# Altium schematic symbol library SCH-27516_C3_16_2_Library.SchLib: 105 symbols (part 1 of 2)
Pins are listed as number, name and electrical type; pins without a type are passive.

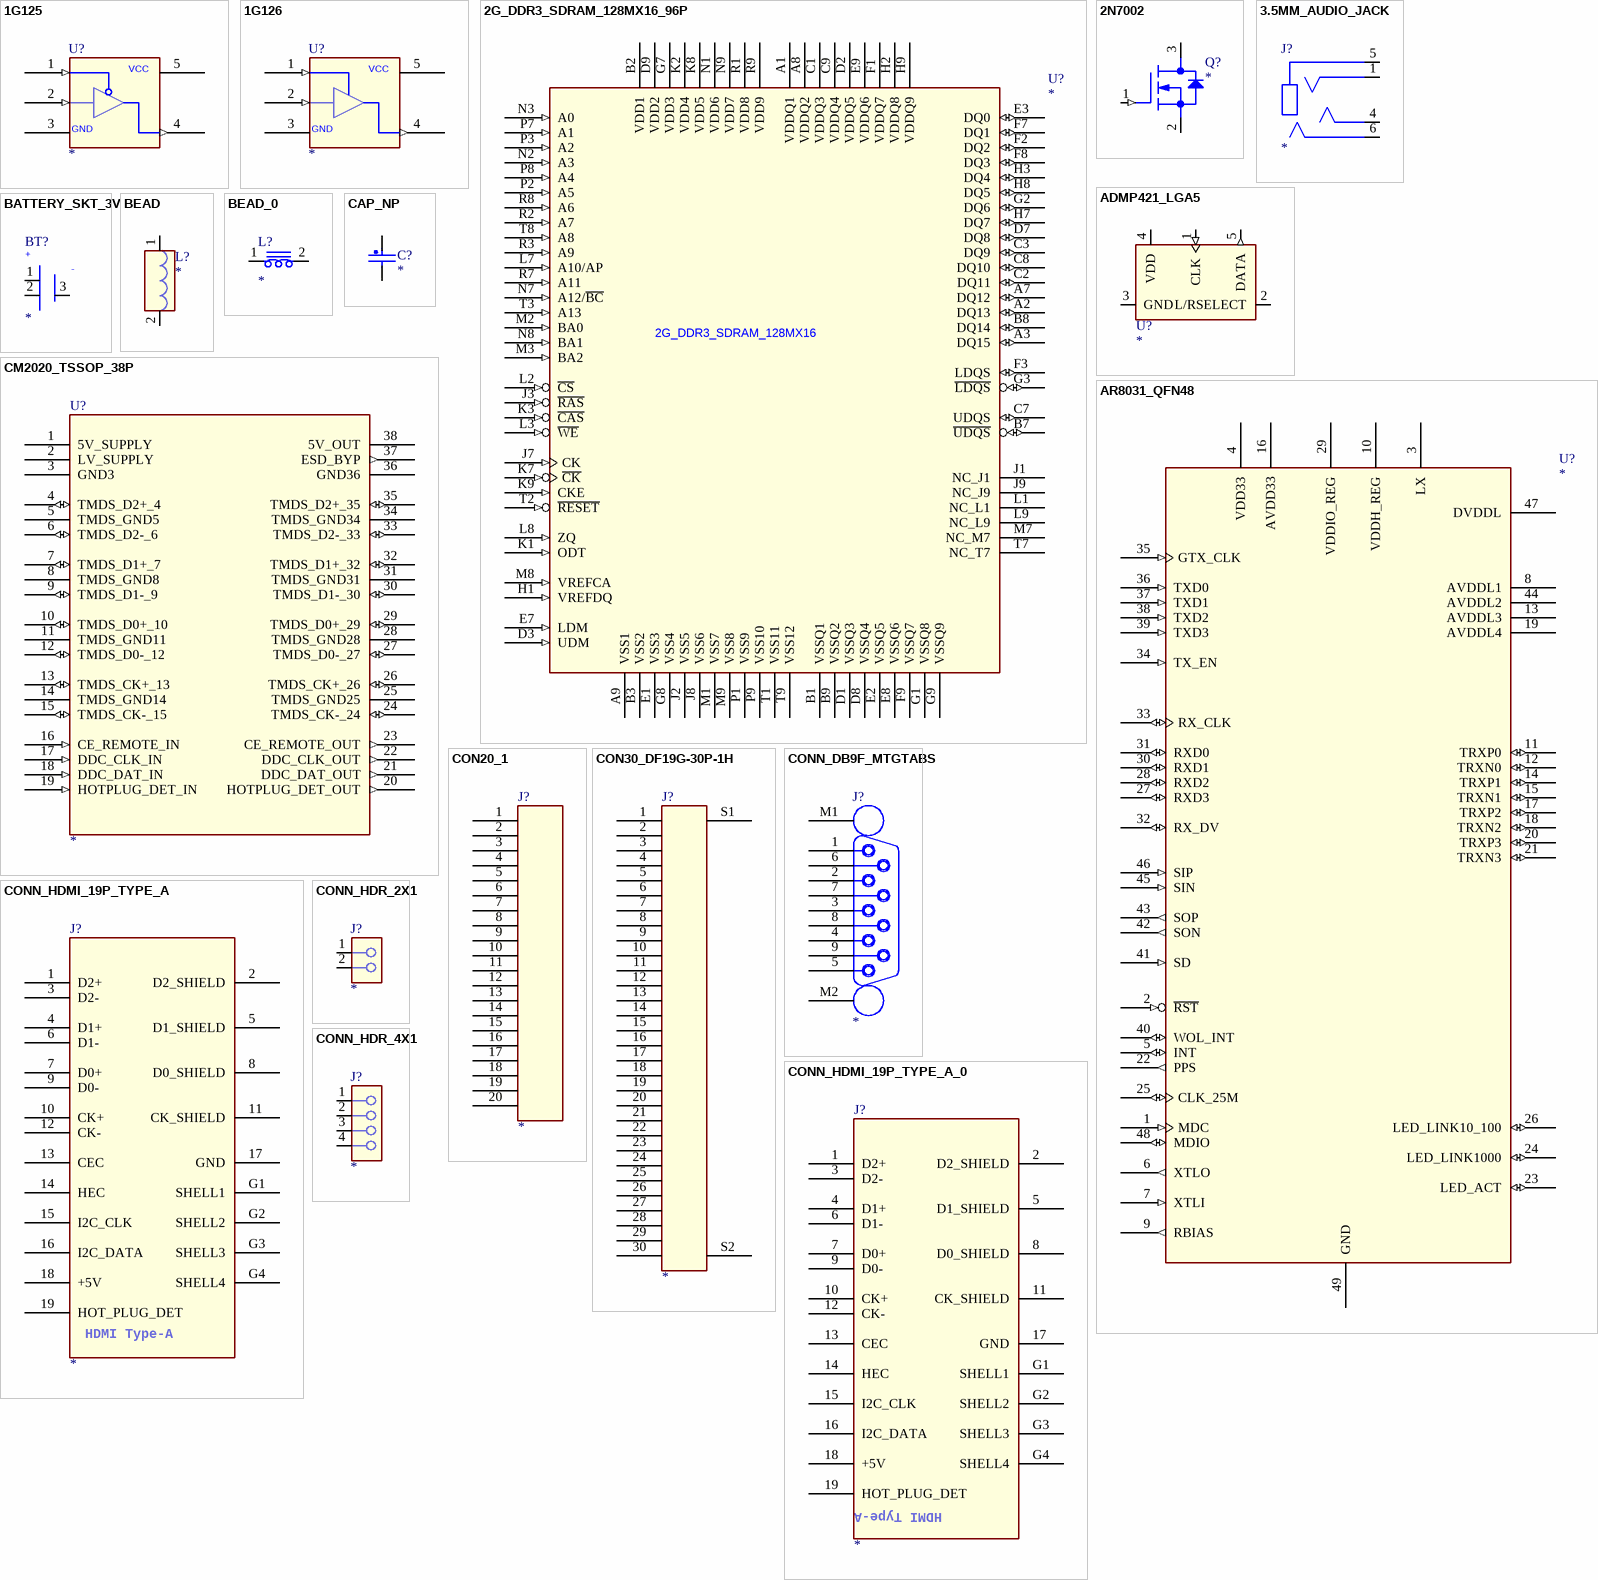
[diagram p0: symbols 1G125 to CONN_HDR_4X1]

## 1G125
designator U?
CLASS: IC
pins: 1 ~{OE} (in), 2 A (in), 3 GND (power), 4 Y (out), 5 VCC (power)

## 1G126
designator U?
CLASS: IC
pins: 1 OE (in), 2 A (in), 3 GND (power), 4 Y (out), 5 VCC (power)

## 2G_DDR3_SDRAM_128MX16_96P
designator U?
CLASS: IC
footprint BGA15X9-96_FS
pins: A1 VDDQ1 (power), A2 DQ13 (io), A3 DQ15 (io), A7 DQ12 (io), A8 VDDQ2 (power), A9 VSS1 (power), B1 VSSQ1 (power), B2 VDD1 (power), B3 VSS2 (power), B7 ~{UDQS} (io), B8 DQ14 (io), B9 VSSQ2 (power), C1 VDDQ3 (power), C2 DQ11 (io), C3 DQ9 (io), C7 UDQS (io), C8 DQ10 (io), C9 VDDQ4 (power), D1 VSSQ3 (power), D2 VDDQ5 (power), D3 UDM (in), D7 DQ8 (io), D8 VSSQ4 (power), D9 VDD2 (power), E1 VSS3 (power), E2 VSSQ5 (power), E3 DQ0 (io), E7 LDM (in), E8 VSSQ6 (power), E9 VDDQ6 (power), F1 VDDQ7 (power), F2 DQ2 (io), F3 LDQS (io), F7 DQ1 (io), F8 DQ3 (io), F9 VSSQ7 (power), G1 VSSQ8 (power), G2 DQ6 (io), G3 ~{LDQS} (io), G7 VDD3 (power), G8 VSS4 (power), G9 VSSQ9 (power), H1 VREFDQ (in), H2 VDDQ8 (power), H3 DQ4 (io), H7 DQ7 (io), H8 DQ5 (io), H9 VDDQ9 (power), J1 NC_J1, J2 VSS5 (power), J3 ~{RAS} (in), J7 CK (in), J8 VSS6 (power), J9 NC_J9, K1 ODT (in), K2 VDD4 (power), K3 ~{CAS} (in), K7 ~{CK} (in), K8 VDD5 (power), K9 CKE (in), L1 NC_L1, L2 ~{CS} (in), L3 ~{WE} (in), L7 A10/AP (in), L8 ZQ (in), L9 NC_L9, M1 VSS7 (power), M2 BA0 (in), M3 BA2 (in), M7 NC_M7, M8 VREFCA (in), M9 VSS8 (power), N1 VDD6 (power), N2 A3 (in), N3 A0 (in), N7 A12/~{BC} (in), N8 BA1 (in), N9 VDD7 (power), P1 VSS9 (power), P2 A5 (in), P3 A2 (in), P7 A1 (in), P8 A4 (in), P9 VSS10 (power), R1 VDD8 (power), R2 A7 (in), R3 A9 (in), R7 A11 (in), R8 A6 (in), R9 VDD9 (power), T1 VSS11 (power), T2 ~{RESET} (in), T3 A13 (in), T7 NC_T7, T8 A8 (in), T9 VSS12 (power)
text: 2G_DDR3_SDRAM_128MX16

## 2N7002
designator Q?
CLASS: IC
pins: 1 GATE (in), 2 SOURCE, 3 DRAIN

## 3.5MM_AUDIO_JACK
designator J?
CLASS: IO
pins: 1, 4, 5, 6

## ADMP421_LGA5
designator U?
CLASS: IC
pins: 1 CLK (in), 2 L/RSELECT, 3 GND (power), 4 VDD (power), 5 DATA (out)

## AR8031_QFN48
designator U?
CLASS: IC
pins: 1 MDC (in), 2 ~{RST} (in), 3 LX (power), 4 VDD33 (power), 5 INT (io), 6 XTLO (out), 7 XTLI (in), 8 AVDDL1 (power), 9 RBIAS (out), 10 VDDH_REG (power), 11 TRXP0 (io), 12 TRXN0 (io), 13 AVDDL3 (power), 14 TRXP1 (io), 15 TRXN1 (io), 16 AVDD33 (power), 17 TRXP2 (io), 18 TRXN2 (io), 19 AVDDL4 (power), 20 TRXP3 (io), 21 TRXN3 (io), 22 PPS (out), 23 LED_ACT (io), 24 LED_LINK1000 (io), 25 CLK_25M (io), 26 LED_LINK10_100 (io), 27 RXD3 (io), 28 RXD2 (io), 29 VDDIO_REG (power), 30 RXD1 (io), 31 RXD0 (io), 32 RX_DV (io), 33 RX_CLK (io), 34 TX_EN (in), 35 GTX_CLK (in), 36 TXD0 (in), 37 TXD1 (in), 38 TXD2 (in), 39 TXD3 (in), 40 WOL_INT (io), 41 SD (in), 42 SON (out), 43 SOP (out), 44 AVDDL2 (power), 45 SIN (in), 46 SIP (in), 47 DVDDL (power), 48 MDIO (io), 49 GND (power)

## BATTERY_SKT_3V
designator BT?
CLASS: IC
pins: 1 pos1, 2 pos2, 3 neg
text: +; -

## BEAD
designator L?
CLASS: DISCRETE
pins: 1, 2

## BEAD_0
designator L?
CLASS: DISCRETE
pins: 1, 2

## CAP_NP
designator C?
CLASS: DISCRETE
pins: 1, 2

## CM2020_TSSOP_38P
designator U?
CLASS: IC
pins: 1 5V_SUPPLY (power), 2 LV_SUPPLY (power), 3 GND3 (power), 4 TMDS_D2+_4 (io), 5 TMDS_GND5 (power), 6 TMDS_D2-_6 (io), 7 TMDS_D1+_7 (io), 8 TMDS_GND8 (power), 9 TMDS_D1-_9 (io), 10 TMDS_D0+_10 (io), 11 TMDS_GND11 (power), 12 TMDS_D0-_12 (io), 13 TMDS_CK+_13 (io), 14 TMDS_GND14 (power), 15 TMDS_CK-_15 (io), 16 CE_REMOTE_IN (in), 17 DDC_CLK_IN (in), 18 DDC_DAT_IN (in), 19 HOTPLUG_DET_IN (in), 20 HOTPLUG_DET_OUT (out), 21 DDC_DAT_OUT (out), 22 DDC_CLK_OUT (out), 23 CE_REMOTE_OUT (out), 24 TMDS_CK-_24 (io), 25 TMDS_GND25 (power), 26 TMDS_CK+_26 (io), 27 TMDS_D0-_27 (io), 28 TMDS_GND28 (power), 29 TMDS_D0+_29 (io), 30 TMDS_D1-_30 (io), 31 TMDS_GND31 (power), 32 TMDS_D1+_32 (io), 33 TMDS_D2-_33 (io), 34 TMDS_GND34 (power), 35 TMDS_D2+_35 (io), 36 GND36 (power), 37 ESD_BYP (out), 38 5V_OUT (power)

## CON20_1
designator J?
CLASS: IO
pins: 1, 2, 3, 4, 5, 6, 7, 8, 9, 10, 11, 12, 13, 14, 15, 16, 17, 18, 19, 20

## CON30_DF19G-30P-1H
designator J?
CLASS: IO
pins: 1, 2, 3, 4, 5, 6, 7, 8, 9, 10, 11, 12, 13, 14, 15, 16, 17, 18, 19, 20, 21, 22, 23, 24, 25, 26, 27, 28, 29, 30, S1 (power), S2 (power)

## CONN_DB9F_MTGTABS
designator J?
CLASS: IO
pins: 1, 2, 3, 4, 5, 6, 7, 8, 9, M1, M2

## CONN_HDMI_19P_TYPE_A
designator J?
pins: 1 D2+, 2 D2_SHIELD, 3 D2-, 4 D1+, 5 D1_SHIELD, 6 D1-, 7 D0+, 8 D0_SHIELD, 9 D0-, 10 CK+, 11 CK_SHIELD, 12 CK-, 13 CEC, 14 HEC, 15 I2C_CLK, 16 I2C_DATA, 17 GND, 18 +5V, 19 HOT_PLUG_DET, G1 SHELL1, G2 SHELL2, G3 SHELL3, G4 SHELL4
text: HDMI Type-A

## CONN_HDMI_19P_TYPE_A_0
designator J?
pins: 1 D2+, 2 D2_SHIELD, 3 D2-, 4 D1+, 5 D1_SHIELD, 6 D1-, 7 D0+, 8 D0_SHIELD, 9 D0-, 10 CK+, 11 CK_SHIELD, 12 CK-, 13 CEC, 14 HEC, 15 I2C_CLK, 16 I2C_DATA, 17 GND, 18 +5V, 19 HOT_PLUG_DET, G1 SHELL1, G2 SHELL2, G3 SHELL3, G4 SHELL4
text: HDMI Type-A

## CONN_HDR_2X1
designator J?
CLASS: IO
pins: 1, 2

## CONN_HDR_4X1
designator J?
CLASS: IO
pins: 1, 2, 3, 4

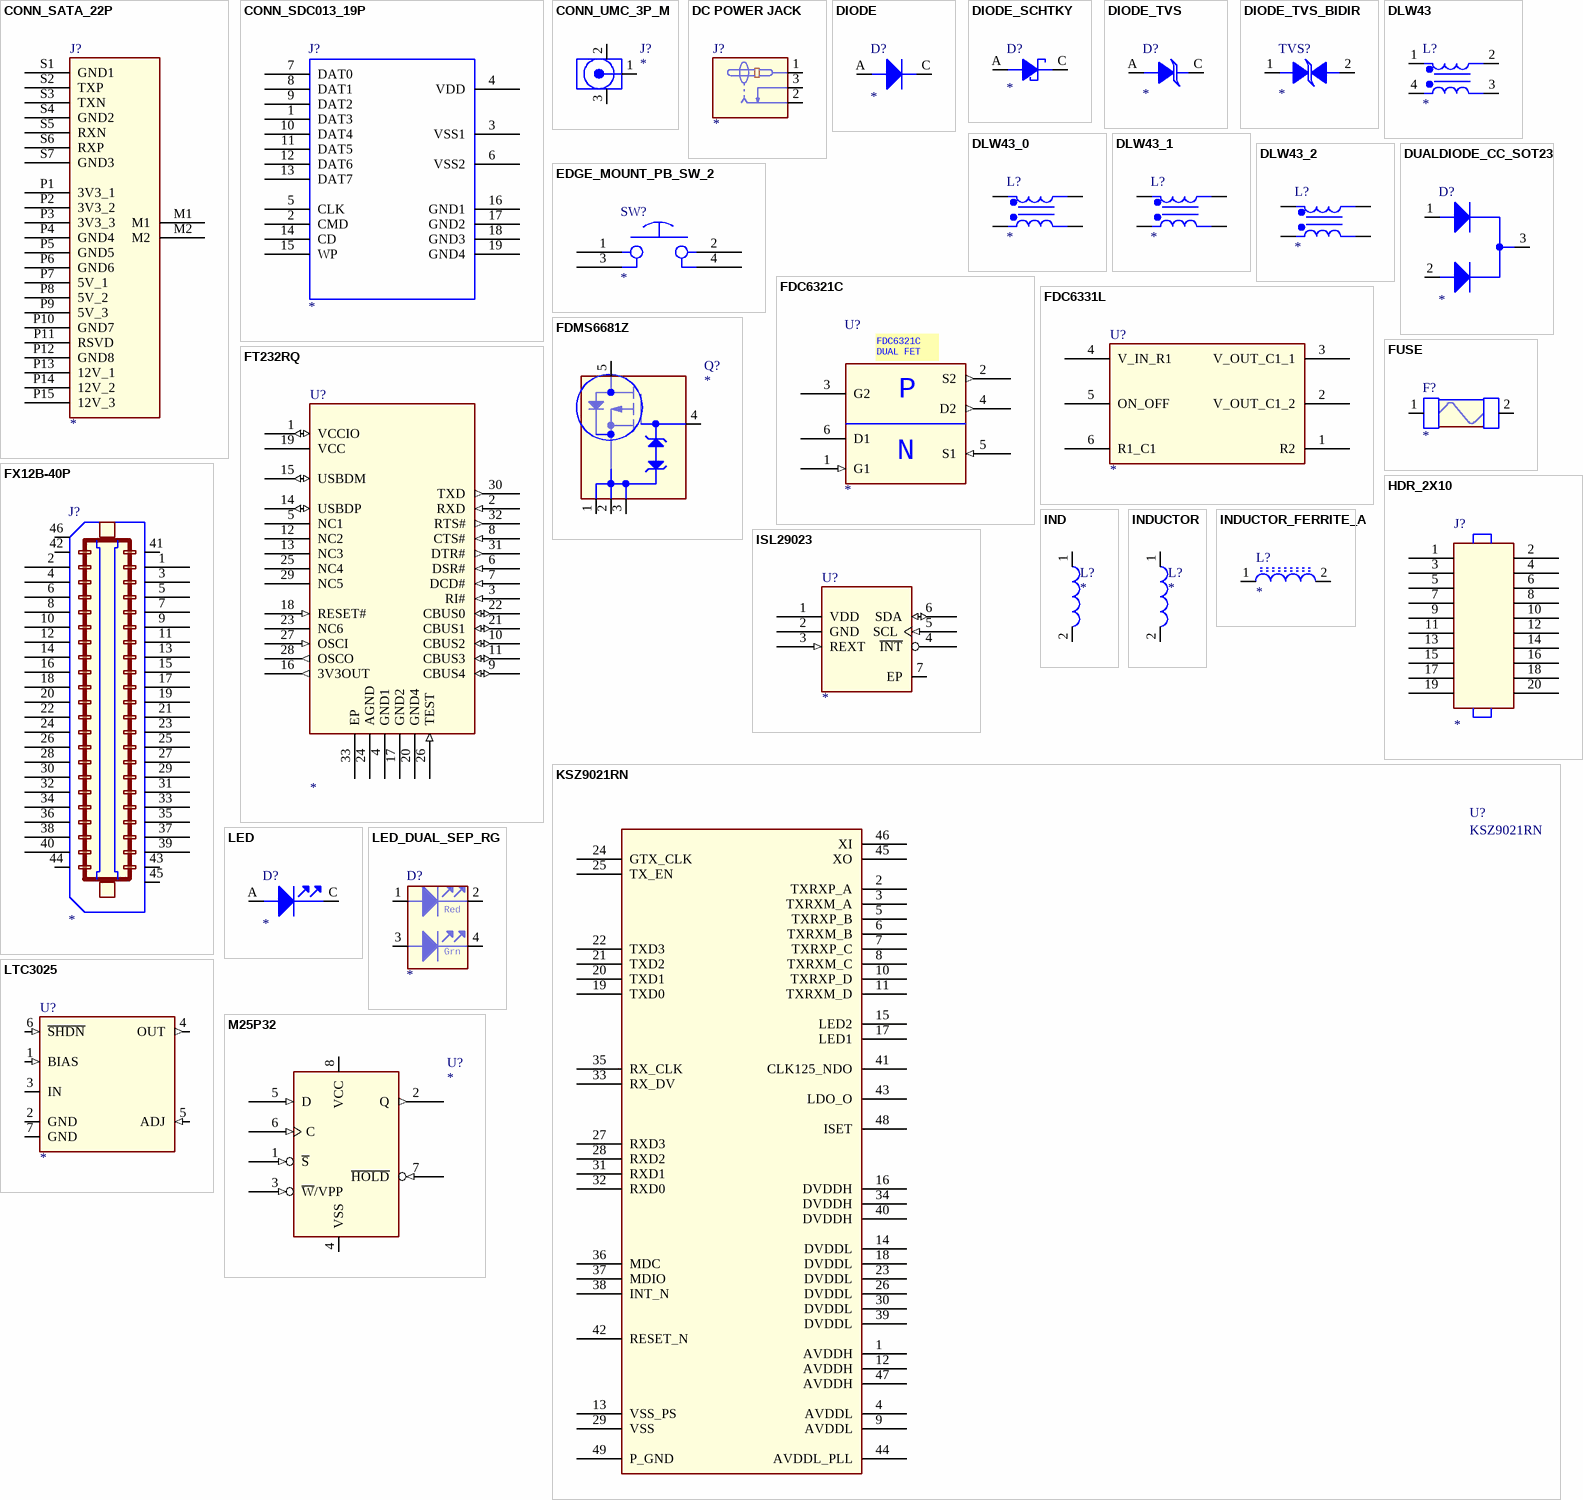
[diagram p1: symbols CONN_SATA_22P to M25P32]

## CONN_SATA_22P
designator J?
CLASS: IO
pins: M1, M2, P1 3V3_1 (power), P2 3V3_2 (power), P3 3V3_3 (power), P4 GND4 (power), P5 GND5 (power), P6 GND6 (power), P7 5V_1 (power), P8 5V_2 (power), P9 5V_3 (power), P10 GND7 (power), P11 RSVD (power), P12 GND8 (power), P13 12V_1 (power), P14 12V_2 (power), P15 12V_3 (power), S1 GND1 (power), S2 TXP, S3 TXN, S4 GND2 (power), S5 RXN, S6 RXP, S7 GND3 (power)

## CONN_SDC013_19P
designator J?
CLASS: IO
pins: 1 DAT3, 2 CMD, 3 VSS1, 4 VDD, 5 CLK, 6 VSS2, 7 DAT0, 8 DAT1, 9 DAT2, 10 DAT4, 11 DAT5, 12 DAT6, 13 DAT7, 14 CD, 15 WP, 16 GND1, 17 GND2, 18 GND3, 19 GND4

## CONN_UMC_3P_M
designator J?
CLASS: IO
pins: 1 CENTER, 2 SHIELD1, 3 SHIELD2

## DC POWER JACK
designator J?
CLASS: IO
pins: 1 Pin, 2, 3

## DIODE
designator D?
CLASS: IC
pins: A ANODE, C CATHODE

## DIODE_SCHTKY
designator D?
CLASS: IC
pins: A, C

## DIODE_TVS
designator D?
CLASS: IC
pins: A, C

## DIODE_TVS_BIDIR
designator TVS?
CLASS: IC
pins: 1 A1, 2 A2

## DLW43
designator L?
CLASS: DISCRETE
pins: 1, 2, 3, 4

## DLW43_0
designator L?
pins: 1, 2, 3, 4

## DLW43_1
designator L?
pins: 1, 2, 3, 4

## DLW43_2
designator L?
pins: 1, 2, 3, 4

## DUALDIODE_CC_SOT23
designator D?
CLASS: IC
pins: 1 A1, 2 A2, 3 C

## EDGE_MOUNT_PB_SW_2
designator SW?
CLASS: IC
pins: 1, 2, 3, 4

## FDC6321C
designator U?
CLASS: IC
pins: 1 G1 (in), 2 S2 (out), 3 G2 (power), 4 D2 (out), 5 S1 (in), 6 D1 (power)
text: FDC6321C / DUAL FET; P; N

## FDC6331L
designator U?
CLASS: IC
pins: 1 R2, 2 V_OUT_C1_2, 3 V_OUT_C1_1, 4 V_IN_R1, 5 ON_OFF, 6 R1_C1

## FDMS6681Z
designator Q?
CLASS: IC
footprint POWER56
pins: 1 S1, 2 S2, 3 S3, 4 G, 5 D

## FT232RQ
designator U?
CLASS: IC
pins: 1 VCCIO (io), 2 RXD (in), 3 RI# (in), 4 GND1 (power), 5 NC1, 6 DSR# (in), 7 DCD# (in), 8 CTS# (in), 9 CBUS4 (io), 10 CBUS2 (io), 11 CBUS3 (io), 12 NC2, 13 NC3, 14 USBDP (io), 15 USBDM (io), 16 3V3OUT (out), 17 GND2 (power), 18 RESET# (in), 19 VCC (power), 20 GND4 (power), 21 CBUS1 (io), 22 CBUS0 (io), 23 NC6, 24 AGND (power), 25 NC4, 26 TEST (in), 27 OSCI (in), 28 OSCO (out), 29 NC5, 30 TXD (out), 31 DTR# (out), 32 RTS# (out), 33 EP (power)

## FUSE
designator F?
CLASS: IC
pins: 1, 2

## FX12B-40P
designator J?
CLASS: IO
pins: 1 P1, 2 P2, 3 P3, 4 P4, 5 P5, 6 P6, 7 P7, 8 P8, 9 P9, 10 P10, 11 P11, 12 P12, 13 P13, 14 P14, 15 P15, 16 P16, 17 P17, 18 P18, 19 P19, 20 P20, 21 P21, 22 P22, 23 P23, 24 P24, 25 P25, 26 P26, 27 P27, 28 P28, 29 P29, 30 P30, 31 P31, 32 P32, 33 P33, 34 P34, 35 P35, 36 P36, 37 P37, 38 P38, 39 P39, 40 P40, 41 P41 (power), 42 P42 (power), 43 P43 (power), 44 P44 (power), 45 P45 (power), 46 P46 (power)

## HDR_2X10
designator J?
CLASS: IO
pins: 1, 2, 3, 4, 5, 6, 7, 8, 9, 10, 11, 12, 13, 14, 15, 16, 17, 18, 19, 20

## IND
designator L?
CLASS: DISCRETE
pins: 1, 2

## INDUCTOR
designator L?
CLASS: DISCRETE
pins: 1, 2

## INDUCTOR_FERRITE_A
designator L?
CLASS: DISCRETE
pins: 1, 2

## ISL29023
designator U?
CLASS: IC
pins: 1 VDD (power), 2 GND (power), 3 REXT (in), 4 ~{INT} (oc), 5 SCL (in), 6 SDA (io), 7 EP (power)

## KSZ9021RN
designator U?
IC TXRX 10/100/1000 SGL 48QFN; Manufacturer: Micrel Inc; Number of Drivers/Receivers: 8/8; Protocol: Gigabit Ethernet; Voltage - Supply: 3.135 V ~ 3.465 V; .Creator: MM; Supplier 1: Digi-Key; Manufacturer Part Number: KSZ9021RN; RoHS: RoHS Compliant; Category: Integrated Circuits (ICs); Stock 1: 909; Pricing 1: 1=6.85, 10=6.165, 50=5.617, 100=5.069, 250=4.658, 500=4.247, 1000=3.699, 2500=3.562, 5000=3.425 (USD); Type: Transceiver; Mounting Type: Surface Mount; Package / Case: 48-VFQFN Exposed Pad; Supplier Device Package: 48-QFN (7x7); Packaging: Tray; ComponentLink1URL: http://www.micrel.com/_PDF/Ethernet/datasheets/ksz9021rl-rn_ds.pdf; ComponentLink1Description: http://www.micrel.com/_PDF/Ethernet/datasheets/ksz9021rl-rn_ds.pdf; Supplier Part Number 1: 576-3637-ND
pins: 1 AVDDH, 2 TXRXP_A, 3 TXRXM_A, 4 AVDDL, 5 TXRXP_B, 6 TXRXM_B, 7 TXRXP_C, 8 TXRXM_C, 9 AVDDL, 10 TXRXP_D, 11 TXRXM_D, 12 AVDDH, 13 VSS_PS, 14 DVDDL, 15 LED2, 16 DVDDH, 17 LED1, 18 DVDDL, 19 TXD0, 20 TXD1, 21 TXD2, 22 TXD3, 23 DVDDL, 24 GTX_CLK, 25 TX_EN, 26 DVDDL, 27 RXD3, 28 RXD2, 29 VSS, 30 DVDDL, 31 RXD1, 32 RXD0, 33 RX_DV, 34 DVDDH, 35 RX_CLK, 36 MDC, 37 MDIO, 38 INT_N, 39 DVDDL, 40 DVDDH, 41 CLK125_NDO, 42 RESET_N, 43 LDO_O, 44 AVDDL_PLL, 45 XO, 46 XI, 47 AVDDH, 48 ISET, 49 P_GND

## LED
designator D?
CLASS: IC
pins: A ANODE, C CATHODE

## LED_DUAL_SEP_RG
designator D?
CLASS: IC
pins: 1 ANODE1, 2 CATHODE1, 3 ANODE2, 4 CATHODE2
text: Red; Grn

## LTC3025
designator U?
CLASS: IC
pins: 1 BIAS (in), 2 GND (power), 3 IN (power), 4 OUT (out), 5 ADJ (in), 6 ~{SHDN} (in), 7 GND (power)

## M25P32
designator U?
CLASS: IC
pins: 1 ~{S} (in), 2 Q (out), 3 ~{W}/VPP (in), 4 VSS (power), 5 D (in), 6 C (in), 7 ~{HOLD} (in), 8 VCC (power)

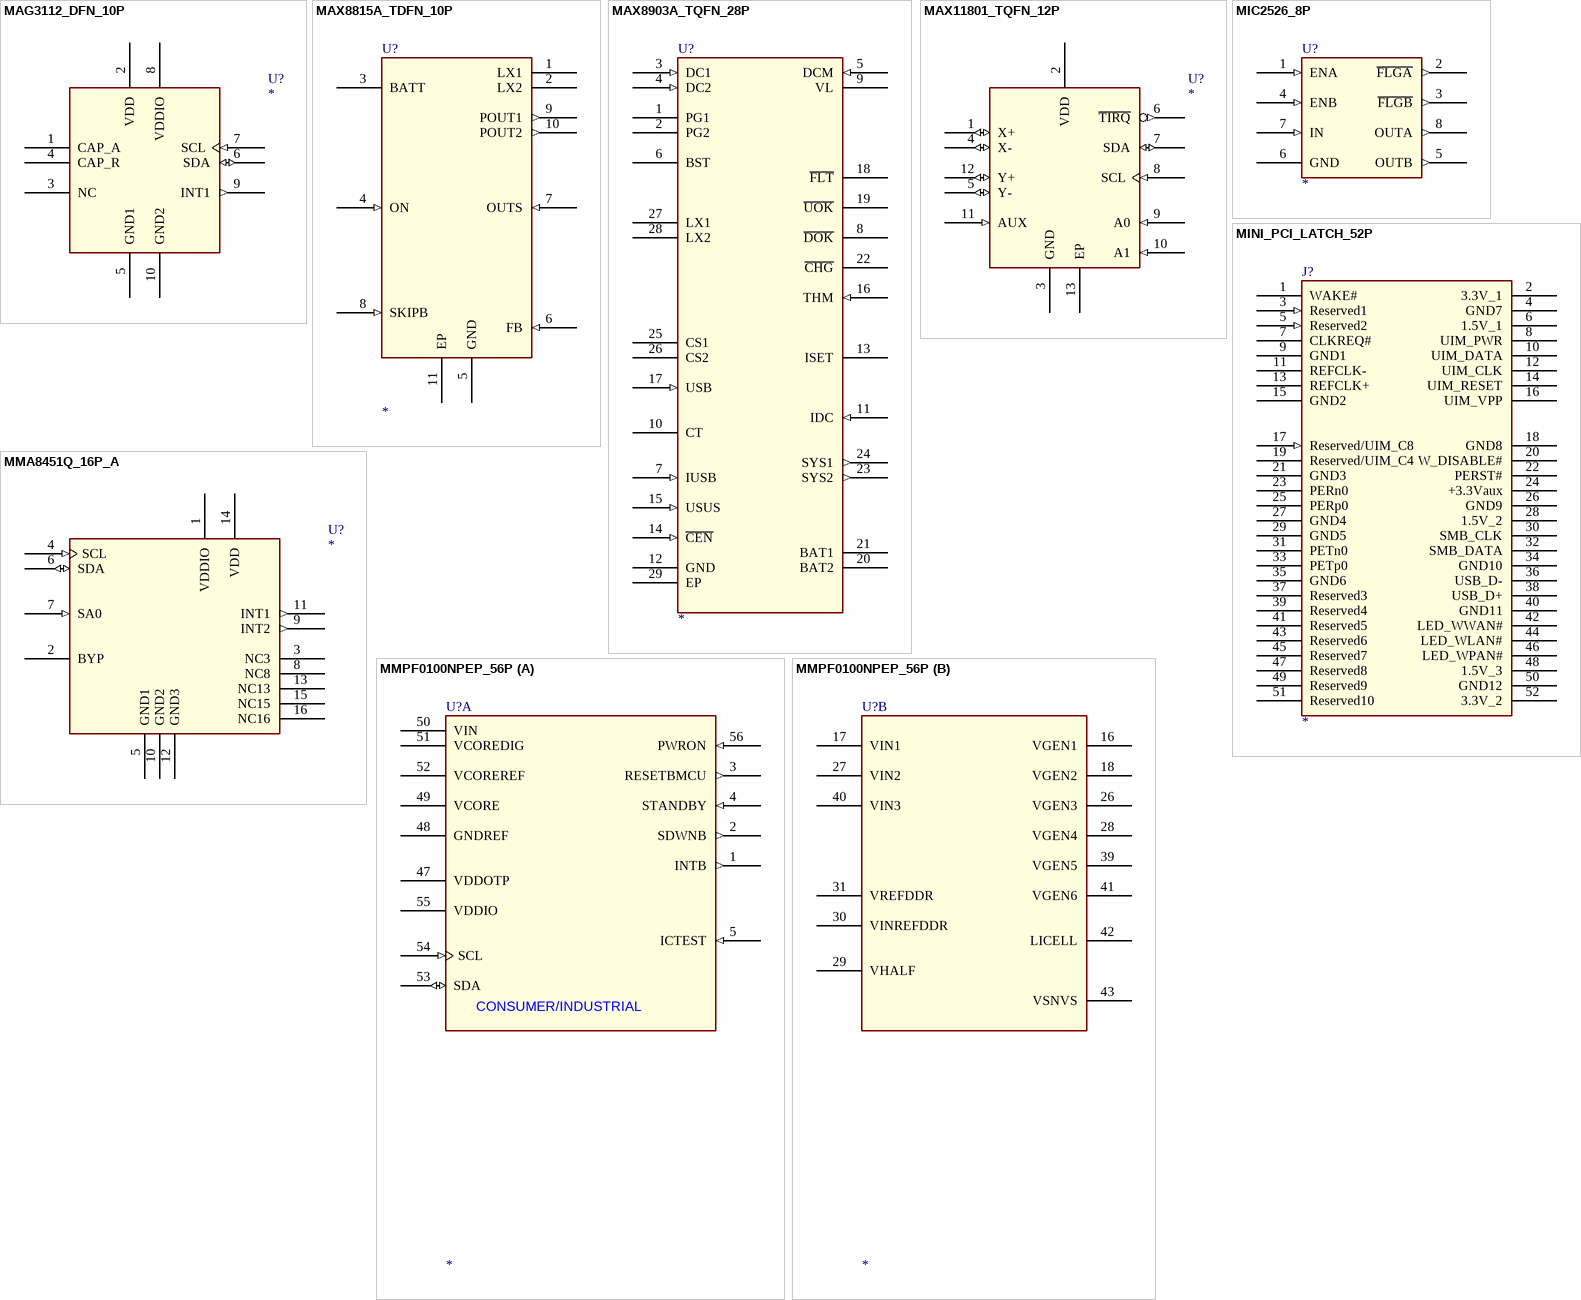
[diagram p2: symbols MAG3112_DFN_10P to MMPF0100NPEP_56P]

## MAG3112_DFN_10P
designator U?
CLASS: IC
pins: 1 CAP_A, 2 VDD (power), 3 NC, 4 CAP_R, 5 GND1 (power), 6 SDA (io), 7 SCL (in), 8 VDDIO (power), 9 INT1 (out), 10 GND2 (power)

## MAX8815A_TDFN_10P
designator U?
CLASS: IC
pins: 1 LX1, 2 LX2, 3 BATT (power), 4 ON (in), 5 GND (power), 6 FB (in), 7 OUTS (in), 8 SKIPB (in), 9 POUT1 (out), 10 POUT2 (out), 11 EP (power)

## MAX8903A_TQFN_28P
designator U?
CLASS: IC
pins: 1 PG1 (power), 2 PG2 (power), 3 DC1 (in), 4 DC2 (in), 5 DCM (in), 6 BST, 7 IUSB (in), 8 ~{DOK} (oc), 9 VL, 10 CT, 11 IDC (in), 12 GND (power), 13 ISET, 14 ~{CEN} (in), 15 USUS (in), 16 THM (in), 17 USB (in), 18 ~{FLT} (oc), 19 ~{UOK} (oc), 20 BAT2 (power), 21 BAT1 (power), 22 ~{CHG} (oc), 23 SYS2 (out), 24 SYS1 (out), 25 CS1, 26 CS2, 27 LX1, 28 LX2, 29 EP (power)

## MAX11801_TQFN_12P
designator U?
CLASS: IC
pins: 1 X+ (io), 2 VDD (power), 3 GND (power), 4 X- (io), 5 Y- (io), 6 ~{TIRQ} (out), 7 SDA (io), 8 SCL (in), 9 A0 (in), 10 A1 (in), 11 AUX (in), 12 Y+ (io), 13 EP (power)

## MIC2526_8P
designator U?
CLASS: IC
pins: 1 ENA (in), 2 ~{FLGA} (out), 3 ~{FLGB} (out), 4 ENB (in), 5 OUTB (out), 6 GND (power), 7 IN (in), 8 OUTA (out)

## MINI_PCI_LATCH_52P
designator J?
CLASS: IO
pins: 1 WAKE#, 2 3.3V_1, 3 Reserved1 (in), 4 GND7, 5 Reserved2 (in), 6 1.5V_1, 7 CLKREQ#, 8 UIM_PWR, 9 GND1, 10 UIM_DATA, 11 REFCLK-, 12 UIM_CLK, 13 REFCLK+, 14 UIM_RESET, 15 GND2, 16 UIM_VPP, 17 Reserved/UIM_C8 (in), 18 GND8, 19 Reserved/UIM_C4, 20 W_DISABLE#, 21 GND3, 22 PERST#, 23 PERn0, 24 +3.3Vaux, 25 PERp0, 26 GND9, 27 GND4, 28 1.5V_2, 29 GND5, 30 SMB_CLK, 31 PETn0, 32 SMB_DATA, 33 PETp0, 34 GND10, 35 GND6, 36 USB_D-, 37 Reserved3, 38 USB_D+, 39 Reserved4, 40 GND11, 41 Reserved5, 42 LED_WWAN#, 43 Reserved6, 44 LED_WLAN#, 45 Reserved7, 46 LED_WPAN#, 47 Reserved8, 48 1.5V_3, 49 Reserved9, 50 GND12, 51 Reserved10, 52 3.3V_2

## MMA8451Q_16P_A
designator U?
CLASS: IC
pins: 1 VDDIO (power), 2 BYP, 3 NC3, 4 SCL (in), 5 GND1 (power), 6 SDA (io), 7 SA0 (in), 8 NC8, 9 INT2 (out), 10 GND2 (power), 11 INT1 (out), 12 GND3 (power), 13 NC13, 14 VDD (power), 15 NC15, 16 NC16

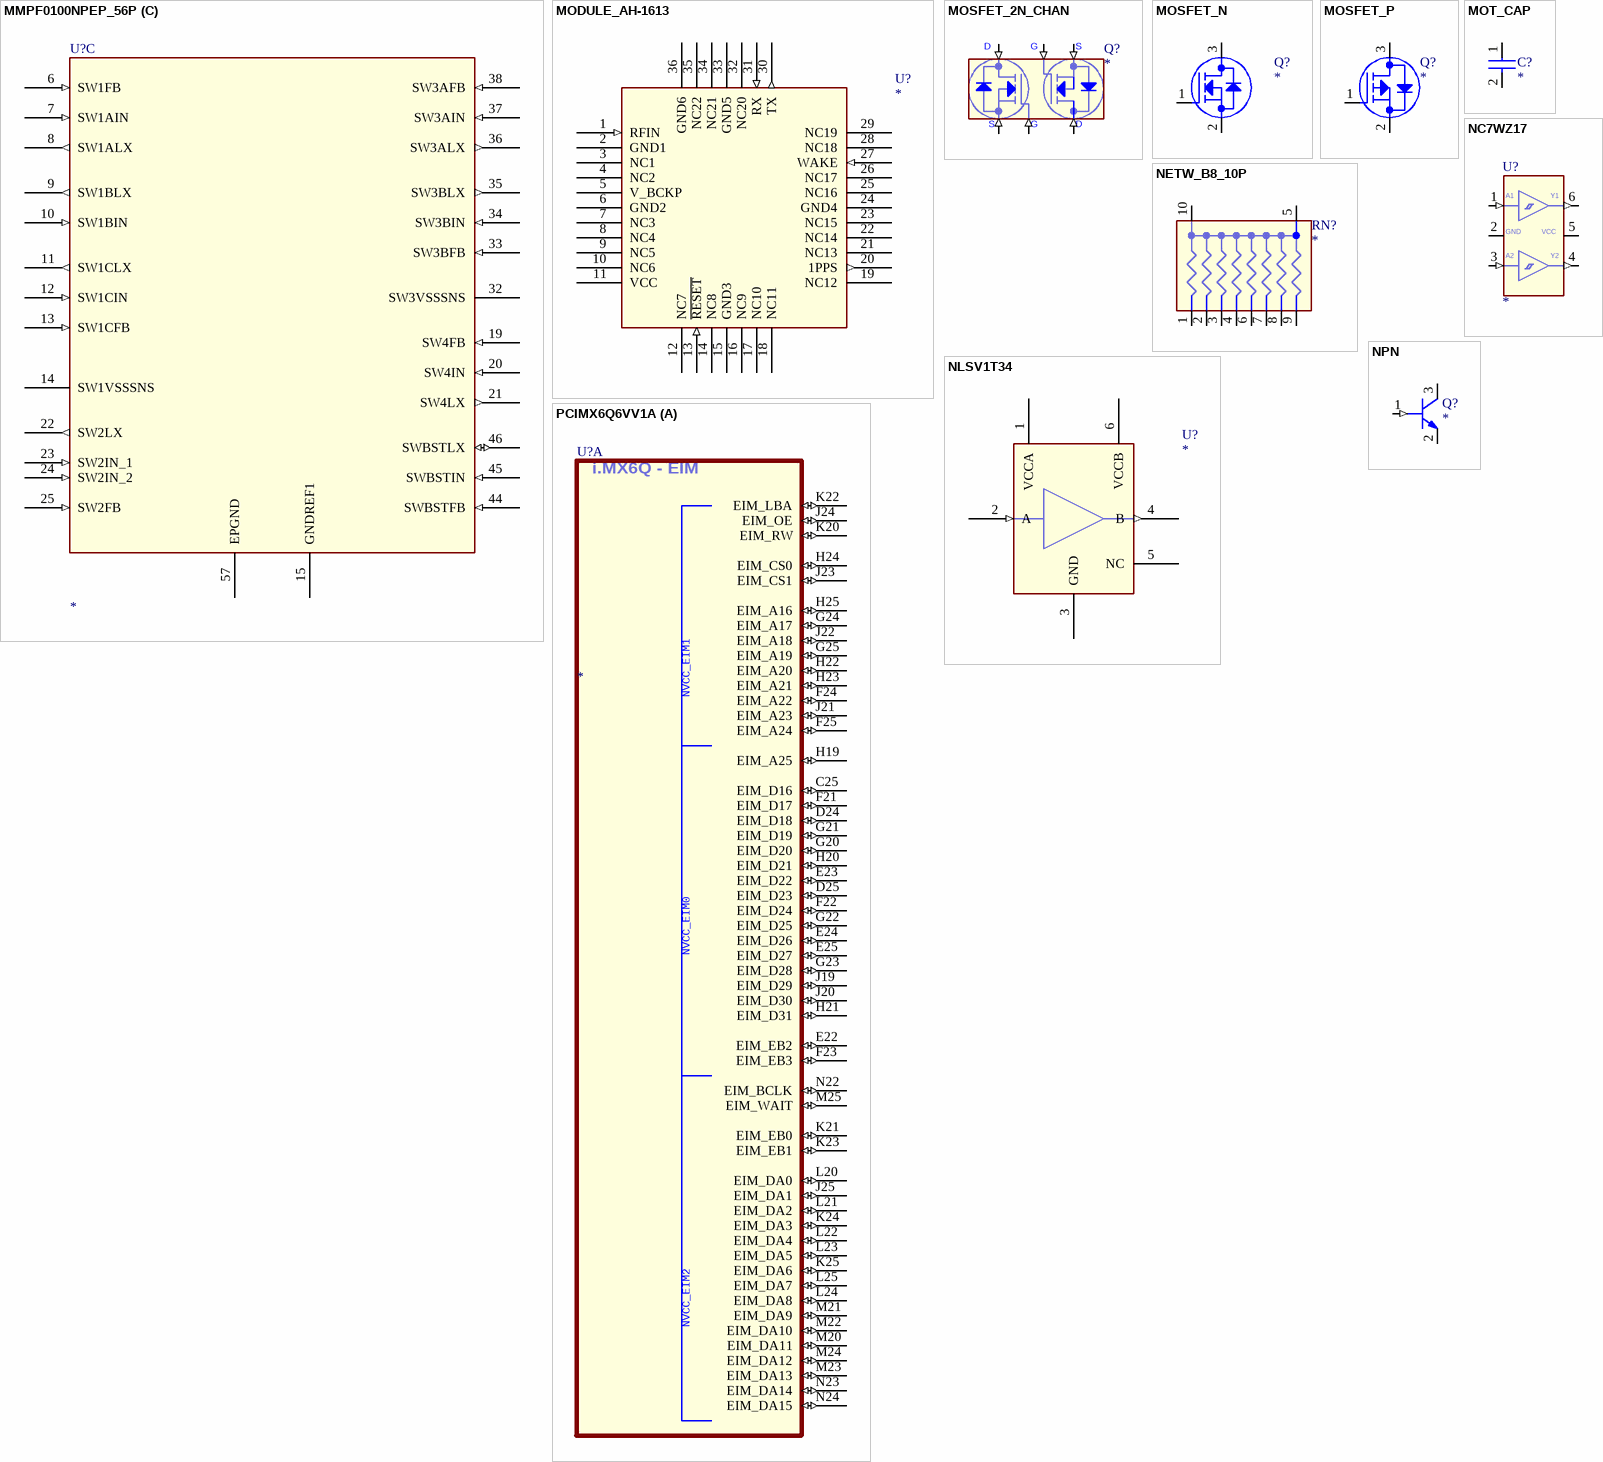
[diagram p3: symbols MMPF0100NPEP_56P to PCIMX6Q6VV1A]

## MMPF0100NPEP_56P
designator U?
CLASS: IC; SWAP_INFO: (S1+S2+S3); SPLIT_INST: TRUE
footprint qfn56ep_0p5_8x8mm
part A pins: 1 INTB (out), 2 SDWNB (out), 3 RESETBMCU (out), 4 STANDBY (in), 5 ICTEST (in), 47 VDDOTP (power), 48 GNDREF (power), 49 VCORE (power), 50 VIN (power), 51 VCOREDIG (power), 52 VCOREREF (power), 53 SDA (io), 54 SCL (in), 55 VDDIO (power), 56 PWRON (in)
part B pins: 16 VGEN1 (power), 17 VIN1 (power), 18 VGEN2 (power), 26 VGEN3 (power), 27 VIN2 (power), 28 VGEN4 (power), 29 VHALF (power), 30 VINREFDDR (power), 31 VREFDDR (power), 39 VGEN5 (power), 40 VIN3 (power), 41 VGEN6 (power), 42 LICELL (power), 43 VSNVS (power)
part C pins: 6 SW1FB (in), 7 SW1AIN (in), 8 SW1ALX (out), 9 SW1BLX (out), 10 SW1BIN (in), 11 SW1CLX (out), 12 SW1CIN (in), 13 SW1CFB (in), 14 SW1VSSSNS (power), 15 GNDREF1 (power), 19 SW4FB (in), 20 SW4IN (in), 21 SW4LX (out), 22 SW2LX (out), 23 SW2IN_1 (in), 24 SW2IN_2 (in), 25 SW2FB (in), 32 SW3VSSSNS (power), 33 SW3BFB (in), 34 SW3BIN (in), 35 SW3BLX (out), 36 SW3ALX (out), 37 SW3AIN (in), 38 SW3AFB (in), 44 SWBSTFB (in), 45 SWBSTIN (in), 46 SWBSTLX (io), 57 EPGND (power)
part A text: CONSUMER/INDUSTRIAL

## MODULE_AH-1613
designator U?
CLASS: IC
pins: 1 RFIN (in), 2 GND1 (power), 3 NC1, 4 NC2, 5 V_BCKP (power), 6 GND2 (power), 7 NC3, 8 NC4, 9 NC5, 10 NC6, 11 VCC (power), 12 NC7, 13 ~{RESET} (in), 14 NC8, 15 GND3 (power), 16 NC9, 17 NC10, 18 NC11, 19 NC12, 20 1PPS (out), 21 NC13, 22 NC14, 23 NC15, 24 GND4 (power), 25 NC16, 26 NC17, 27 WAKE (in), 28 NC18, 29 NC19, 30 TX (out), 31 RX (in), 32 NC20, 33 GND5 (power), 34 NC21, 35 NC22, 36 GND6 (power)

## MOSFET_2N_CHAN
designator Q?
CLASS: IC
pins: 1 SOURCE2 (in), 2 GATE2 (in), 3 DRAIN1 (in), 4 SOURCE1 (in), 5 GATE1 (in), 6 DRAIN2 (in)
text: D; G; S

## MOSFET_N
designator Q?
CLASS: IC
pins: 1 GATE, 2 SOURCE, 3 DRAIN

## MOSFET_P
designator Q?
CLASS: IC
pins: 1 GATE, 2 SOURCE, 3 DRAIN

## MOT_CAP
designator C?
CLASS: DISCRETE
pins: 1, 2

## NC7WZ17
designator U?
CLASS: IC
footprint SC-70-6
pins: 1 A1 (in), 2 GND (power), 3 A2 (in), 4 Y2 (out), 5 VCC (power), 6 Y1 (out)

## NETW_B8_10P
designator RN?
CLASS: DISCRETE
pins: 1, 2, 3, 4, 5, 6, 7, 8, 9, 10

## NLSV1T34
designator U?
CLASS: IC
pins: 1 VCCA (power), 2 A (in), 3 GND (power), 4 B (out), 5 NC, 6 VCCB (power)

## NPN
designator Q?
CLASS: IC
pins: 1 BASE (in), 2 EMITTER, 3 COLLECTOR

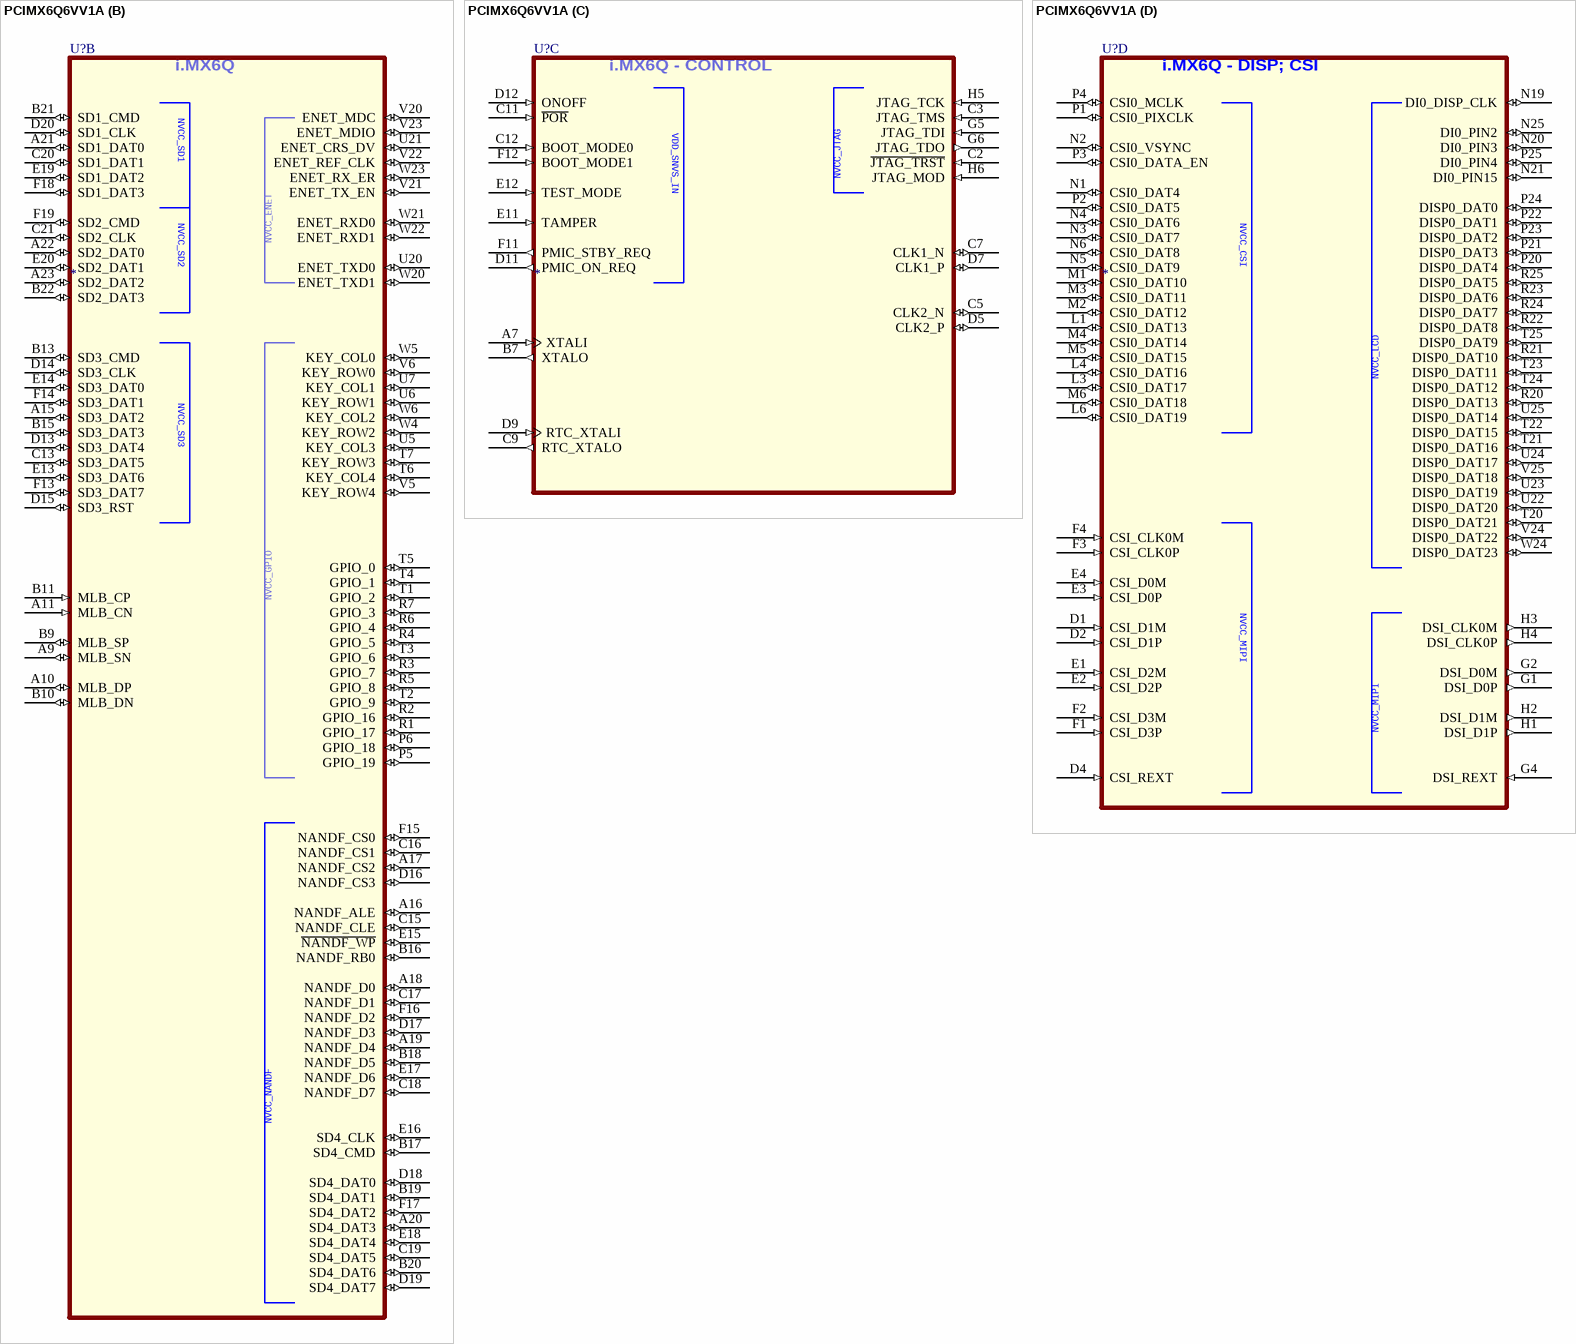
[diagram p4: symbol PCIMX6Q6VV1A]

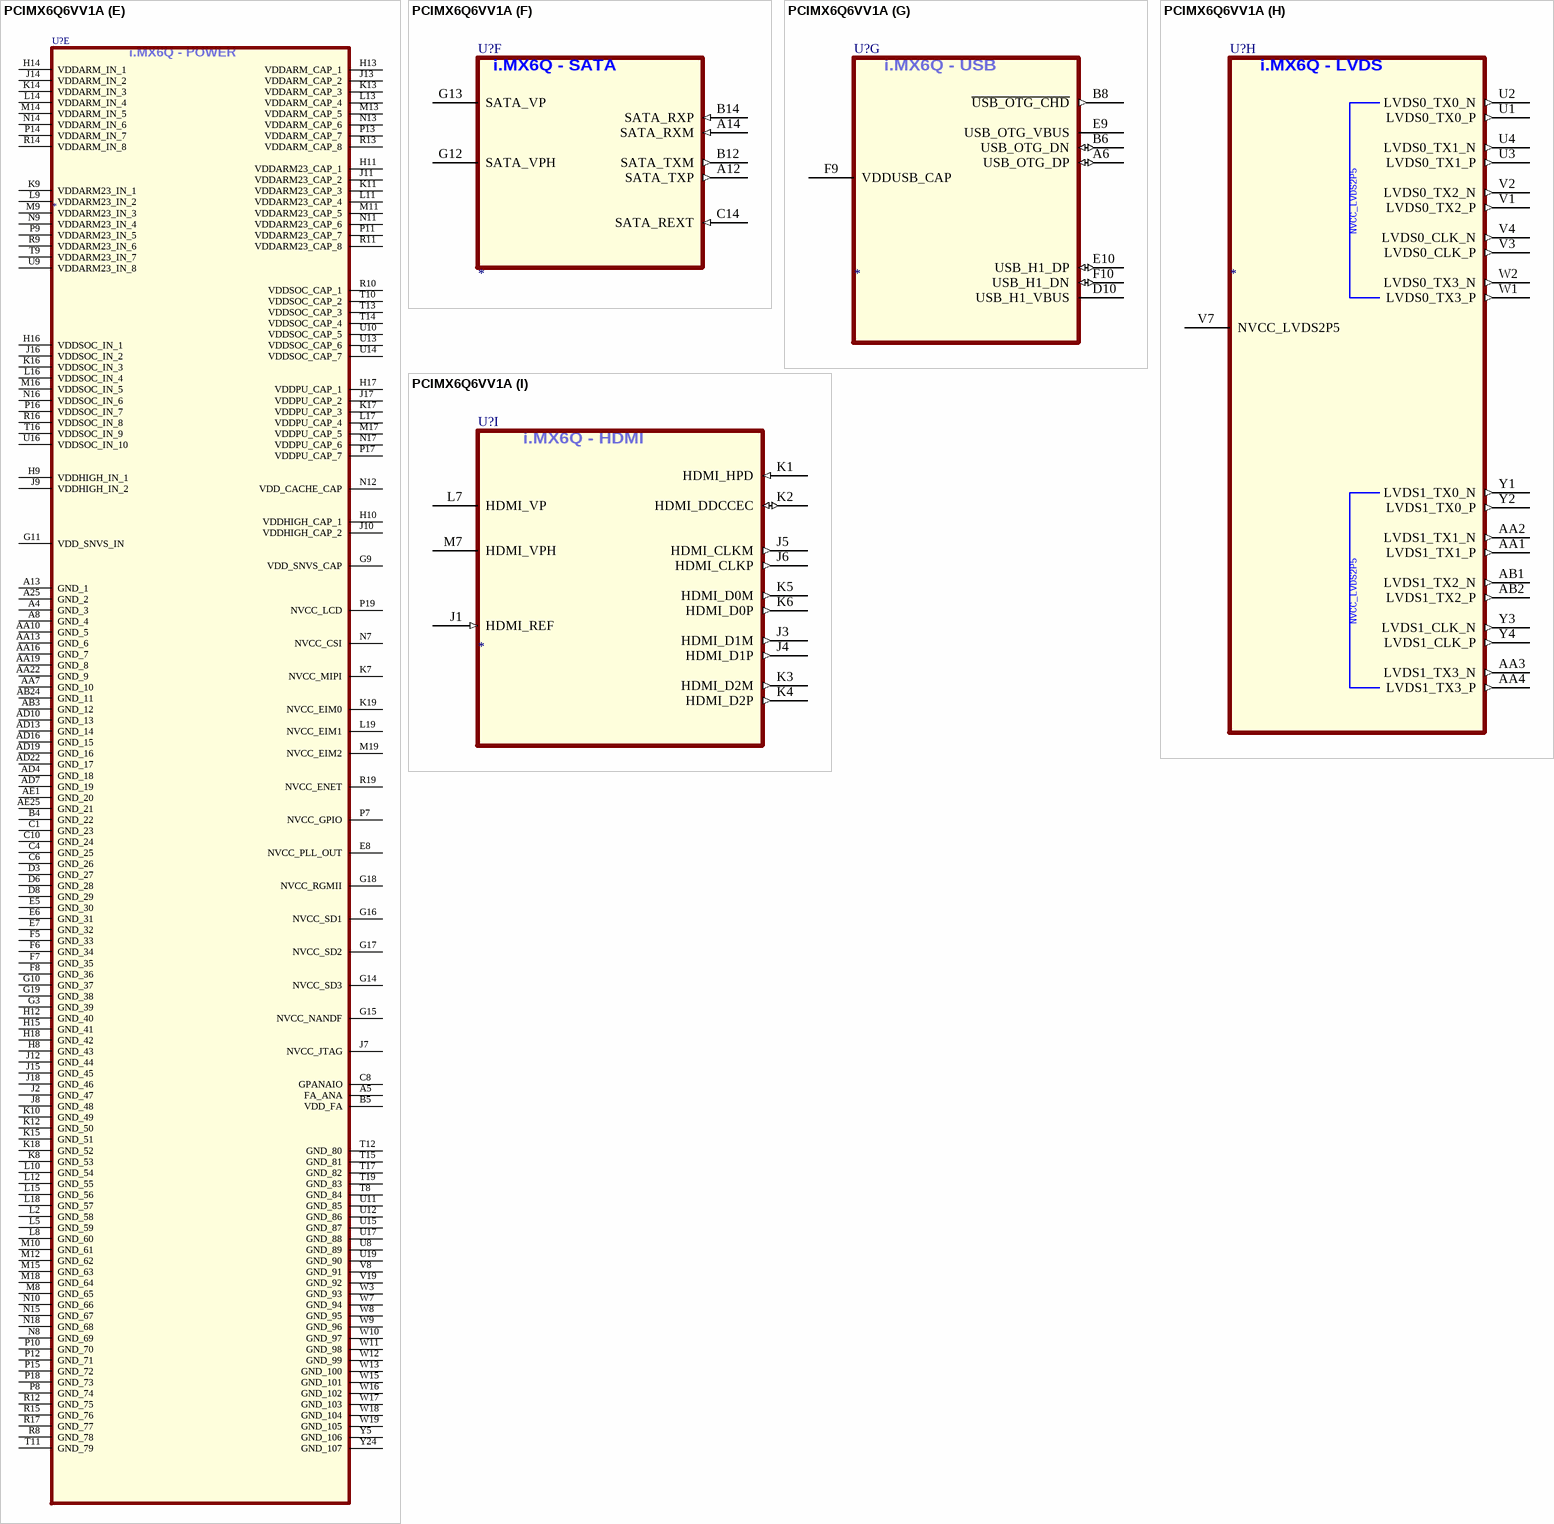
[diagram p5: symbol PCIMX6Q6VV1A]

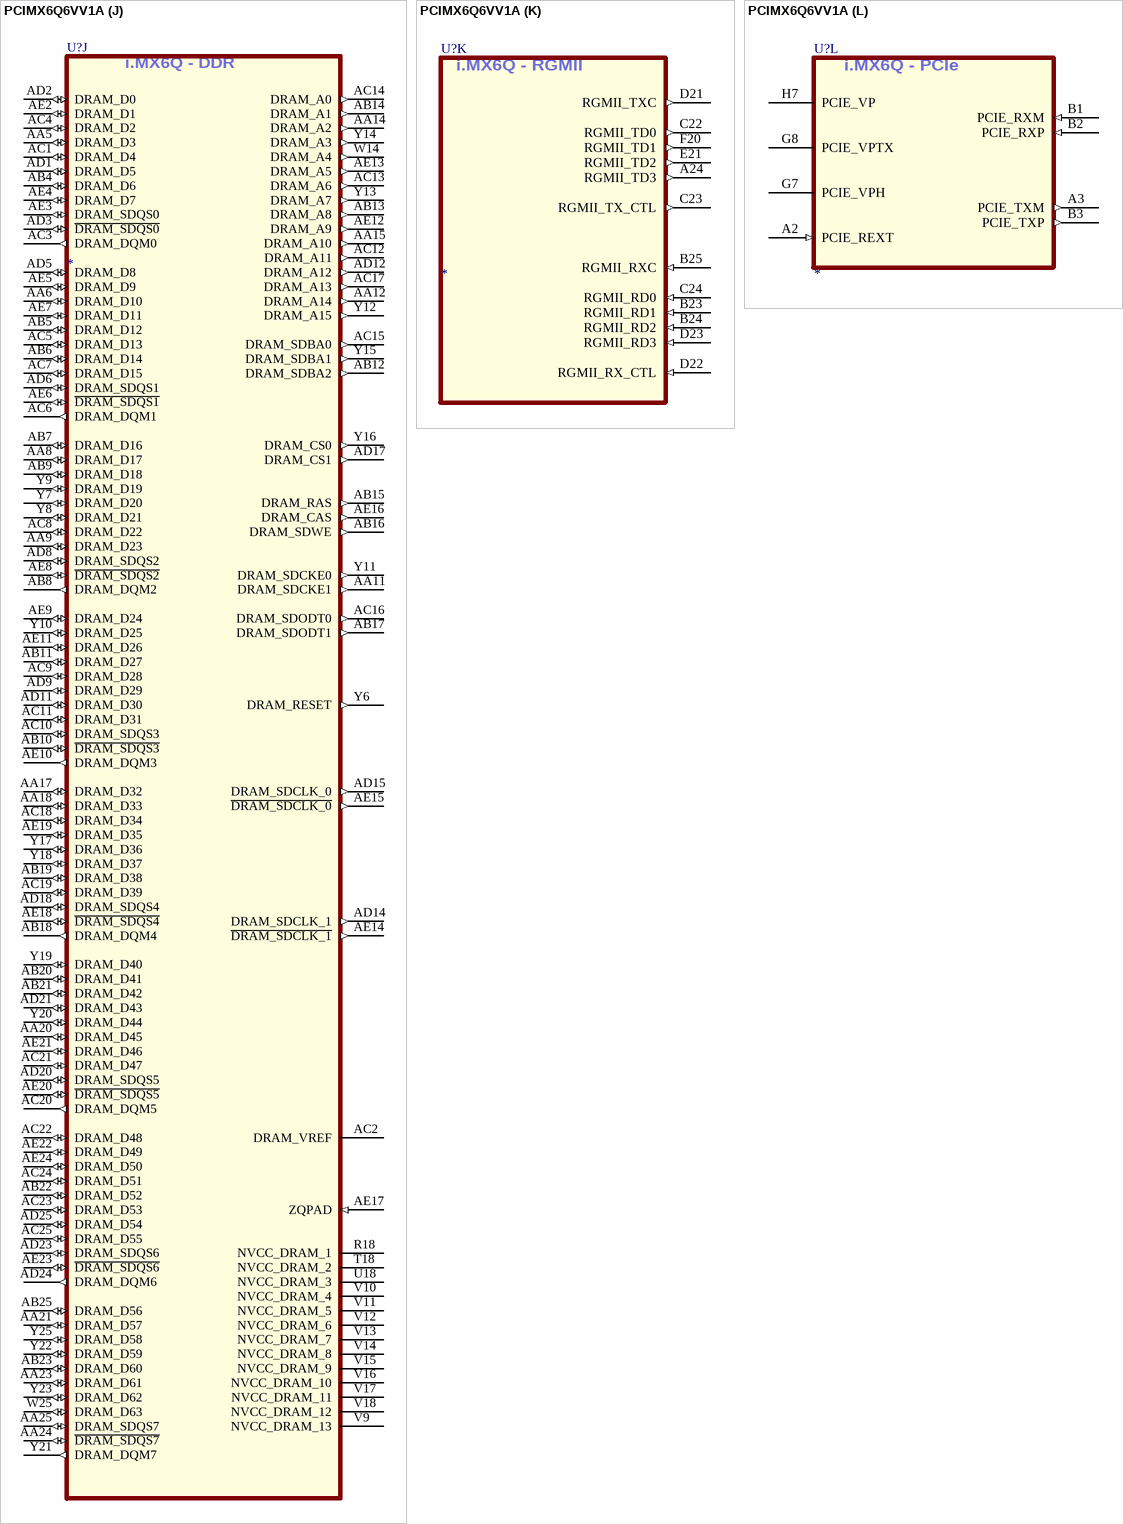
[diagram p6: symbol PCIMX6Q6VV1A]

## PCIMX6Q6VV1A
designator U?
CLASS: IC
part A pins: C25 EIM_D16 (io), D24 EIM_D18 (io), D25 EIM_D23 (io), E22 EIM_EB2 (io), E23 EIM_D22 (io), E24 EIM_D26 (io), E25 EIM_D27 (io), F21 EIM_D17 (io), F22 EIM_D24 (io), F23 EIM_EB3 (io), F24 EIM_A22 (io), F25 EIM_A24 (io), G20 EIM_D20 (io), G21 EIM_D19 (io), G22 EIM_D25 (io), G23 EIM_D28 (io), G24 EIM_A17 (io), G25 EIM_A19 (io), H19 EIM_A25 (io), H20 EIM_D21 (io), H21 EIM_D31 (io), H22 EIM_A20 (io), H23 EIM_A21 (io), H24 EIM_CS0 (io), H25 EIM_A16 (io), J19 EIM_D29 (io), J20 EIM_D30 (io), J21 EIM_A23 (io), J22 EIM_A18 (io), J23 EIM_CS1 (io), J24 EIM_OE (io), J25 EIM_DA1 (io), K20 EIM_RW (io), K21 EIM_EB0 (io), K22 EIM_LBA (io), K23 EIM_EB1 (io), K24 EIM_DA3 (io), K25 EIM_DA6 (io), L20 EIM_DA0 (io), L21 EIM_DA2 (io), L22 EIM_DA4 (io), L23 EIM_DA5 (io), L24 EIM_DA8 (io), L25 EIM_DA7 (io), M20 EIM_DA11 (io), M21 EIM_DA9 (io), M22 EIM_DA10 (io), M23 EIM_DA13 (io), M24 EIM_DA12 (io), M25 EIM_WAIT (io), N22 EIM_BCLK (io), N23 EIM_DA14 (io), N24 EIM_DA15 (io)
part B pins: A9 MLB_SN (io), A10 MLB_DP (io), A11 MLB_CN (in), A15 SD3_DAT2 (io), A16 NANDF_ALE (io), A17 NANDF_CS2 (io), A18 NANDF_D0 (io), A19 NANDF_D4 (io), A20 SD4_DAT3 (io), A21 SD1_DAT0 (io), A22 SD2_DAT0 (io), A23 SD2_DAT2 (io), B9 MLB_SP (io), B10 MLB_DN (io), B11 MLB_CP (in), B13 SD3_CMD (io), B15 SD3_DAT3 (io), B16 NANDF_RB0 (io), B17 SD4_CMD (io), B18 NANDF_D5 (io), B19 SD4_DAT1 (io), B20 SD4_DAT6 (io), B21 SD1_CMD (io), B22 SD2_DAT3 (io), C13 SD3_DAT5 (io), C15 NANDF_CLE (io), C16 NANDF_CS1 (io), C17 NANDF_D1 (io), C18 NANDF_D7 (io), C19 SD4_DAT5 (io), C20 SD1_DAT1 (io), C21 SD2_CLK (io), D13 SD3_DAT4 (io), D14 SD3_CLK (io), D15 SD3_RST (io), D16 NANDF_CS3 (io), D17 NANDF_D3 (io), D18 SD4_DAT0 (io), D19 SD4_DAT7 (io), D20 SD1_CLK (io), E13 SD3_DAT6 (io), E14 SD3_DAT0 (io), E15 ~{NANDF_WP} (io), E16 SD4_CLK (io), E17 NANDF_D6 (io), E18 SD4_DAT4 (io), E19 SD1_DAT2 (io), E20 SD2_DAT1 (io), F13 SD3_DAT7 (io), F14 SD3_DAT1 (io), F15 NANDF_CS0 (io), F16 NANDF_D2 (io), F17 SD4_DAT2 (io), F18 SD1_DAT3 (io), F19 SD2_CMD (io), P5 GPIO_19 (io), P6 GPIO_18 (io), R1 GPIO_17 (io), R2 GPIO_16 (io), R3 GPIO_7 (io), R4 GPIO_5 (io), R5 GPIO_8 (io), R6 GPIO_4 (io), R7 GPIO_3 (io), T1 GPIO_2 (io), T2 GPIO_9 (io), T3 GPIO_6 (io), T4 GPIO_1 (io), T5 GPIO_0 (io), T6 KEY_COL4 (io), T7 KEY_ROW3 (io), U5 KEY_COL3 (io), U6 KEY_ROW1 (io), U7 KEY_COL1 (io), U20 ENET_TXD0 (io), U21 ENET_CRS_DV (io), V5 KEY_ROW4 (io), V6 KEY_ROW0 (io), V20 ENET_MDC (io), V21 ENET_TX_EN (io), V22 ENET_REF_CLK (io), V23 ENET_MDIO (io), W4 KEY_ROW2 (io), W5 KEY_COL0 (io), W6 KEY_COL2 (io), W20 ENET_TXD1 (io), W21 ENET_RXD0 (io), W22 ENET_RXD1 (io), W23 ENET_RX_ER (io)
part C pins: A7 XTALI (in), B7 XTALO (out), C2 ~{JTAG_TRST} (in), C3 JTAG_TMS (in), C5 CLK2_N (io), C7 CLK1_N (io), C9 RTC_XTALO (out), C11 ~{POR} (in), C12 BOOT_MODE0 (in), D5 CLK2_P (io), D7 CLK1_P (io), D9 RTC_XTALI (in), D11 PMIC_ON_REQ (out), D12 ONOFF (in), E11 TAMPER (in), E12 TEST_MODE (in), F11 PMIC_STBY_REQ (out), F12 BOOT_MODE1 (in), G5 JTAG_TDI (in), G6 JTAG_TDO (out), H5 JTAG_TCK (in), H6 JTAG_MOD (in)
part D pins: D1 CSI_D1M (in), D2 CSI_D1P (in), D4 CSI_REXT (in), E1 CSI_D2M (in), E2 CSI_D2P (in), E3 CSI_D0P (in), E4 CSI_D0M (in), F1 CSI_D3P (in), F2 CSI_D3M (in), F3 CSI_CLK0P (in), F4 CSI_CLK0M (in), G1 DSI_D0P (out), G2 DSI_D0M (out), G4 DSI_REXT (in), H1 DSI_D1P (out), H2 DSI_D1M (out), H3 DSI_CLK0M (out), H4 DSI_CLK0P (out), L1 CSI0_DAT13 (io), L3 CSI0_DAT17 (io), L4 CSI0_DAT16 (io), L6 CSI0_DAT19 (io), M1 CSI0_DAT10 (io), M2 CSI0_DAT12 (io), M3 CSI0_DAT11 (io), M4 CSI0_DAT14 (io), M5 CSI0_DAT15 (io), M6 CSI0_DAT18 (io), N1 CSI0_DAT4 (io), N2 CSI0_VSYNC (io), N3 CSI0_DAT7 (io), N4 CSI0_DAT6 (io), N5 CSI0_DAT9 (io), N6 CSI0_DAT8 (io), N19 DI0_DISP_CLK (io), N20 DI0_PIN3 (io), N21 DI0_PIN15 (io), N25 DI0_PIN2 (io), P1 CSI0_PIXCLK (io), P2 CSI0_DAT5 (io), P3 CSI0_DATA_EN (io), P4 CSI0_MCLK (io), P20 DISP0_DAT4 (io), P21 DISP0_DAT3 (io), P22 DISP0_DAT1 (io), P23 DISP0_DAT2 (io), P24 DISP0_DAT0 (io), P25 DI0_PIN4 (io), R20 DISP0_DAT13 (io), R21 DISP0_DAT10 (io), R22 DISP0_DAT8 (io), R23 DISP0_DAT6 (io), R24 DISP0_DAT7 (io), R25 DISP0_DAT5 (io), T20 DISP0_DAT21 (io), T21 DISP0_DAT16 (io), T22 DISP0_DAT15 (io), T23 DISP0_DAT11 (io), T24 DISP0_DAT12 (io), T25 DISP0_DAT9 (io), U22 DISP0_DAT20 (io), U23 DISP0_DAT19 (io), U24 DISP0_DAT17 (io), U25 DISP0_DAT14 (io), V24 DISP0_DAT22 (io), V25 DISP0_DAT18 (io), W24 DISP0_DAT23 (io)
part E pins: A4 GND_3 (power), A5 FA_ANA (power), A8 GND_4 (power), A13 GND_1 (power), A25 GND_2 (power), AA7 GND_10 (power), AA10 GND_5 (power), AA13 GND_6 (power), AA16 GND_7 (power), AA19 GND_8 (power), AA22 GND_9 (power), AB3 GND_12 (power), AB24 GND_11 (power), AD4 GND_18 (power), AD7 GND_19 (power), AD10 GND_13 (power), AD13 GND_14 (power), AD16 GND_15 (power), AD19 GND_16 (power), AD22 GND_17 (power), AE1 GND_20 (power), AE25 GND_21 (power), B4 GND_22 (power), B5 VDD_FA (power), C1 GND_23 (power), C4 GND_25 (power), C6 GND_26 (power), C8 GPANAIO (power), C10 GND_24 (power), D3 GND_27 (power), D6 GND_28 (power), D8 GND_29 (power), E5 GND_30 (power), E6 GND_31 (power), E7 GND_32 (power), E8 NVCC_PLL_OUT (power), F5 GND_33 (power), F6 GND_34 (power), F7 GND_35 (power), F8 GND_36 (power), G3 GND_39 (power), G9 VDD_SNVS_CAP (power), G10 GND_37 (power), G11 VDD_SNVS_IN (power), G14 NVCC_SD3 (power), G15 NVCC_NANDF (power), G16 NVCC_SD1 (power), G17 NVCC_SD2 (power), G18 NVCC_RGMII (power), G19 GND_38 (power), H8 GND_43 (power), H9 VDDHIGH_IN_1 (power), H10 VDDHIGH_CAP_1 (power), H11 VDDARM23_CAP_1 (power), H12 GND_40 (power), H13 VDDARM_CAP_1 (power), H14 VDDARM_IN_1 (power), H15 GND_41 (power), H16 VDDSOC_IN_1 (power), H17 VDDPU_CAP_1 (power), H18 GND_42 (power), J2 GND_47 (power), J7 NVCC_JTAG (power), J8 GND_48 (power), J9 VDDHIGH_IN_2 (power), J10 VDDHIGH_CAP_2 (power), J11 VDDARM23_CAP_2 (power), J12 GND_44 (power), J13 VDDARM_CAP_2 (power), J14 VDDARM_IN_2 (power), J15 GND_45 (power), J16 VDDSOC_IN_2 (power), J17 VDDPU_CAP_2 (power), J18 GND_46 (power), K7 NVCC_MIPI (power), K8 GND_53 (power), K9 VDDARM23_IN_1 (power), K10 GND_49 (power), K11 VDDARM23_CAP_3 (power), K12 GND_50 (power), K13 VDDARM_CAP_3 (power), K14 VDDARM_IN_3 (power), K15 GND_51 (power), K16 VDDSOC_IN_3 (power), K17 VDDPU_CAP_3 (power), K18 GND_52 (power), K19 NVCC_EIM0 (power), L2 GND_58 (power), L5 GND_59 (power), L8 GND_60 (power), L9 VDDARM23_IN_2 (power), L10 GND_54 (power), L11 VDDARM23_CAP_4 (power), L12 GND_55 (power), L13 VDDARM_CAP_4 (power), L14 VDDARM_IN_4 (power), L15 GND_56 (power), L16 VDDSOC_IN_4 (power), L17 VDDPU_CAP_4 (power), L18 GND_57 (power), L19 NVCC_EIM1 (power), M8 GND_65 (power), M9 VDDARM23_IN_3 (power), M10 GND_61 (power), M11 VDDARM23_CAP_5 (power), M12 GND_62 (power), M13 VDDARM_CAP_5 (power), M14 VDDARM_IN_5 (power), M15 GND_63 (power), M16 VDDSOC_IN_5 (power), M17 VDDPU_CAP_5 (power), M18 GND_64 (power), M19 NVCC_EIM2 (power), N7 NVCC_CSI (power), N8 GND_69 (power), N9 VDDARM23_IN_4 (power), N10 GND_66 (power), N11 VDDARM23_CAP_6 (power), N12 VDD_CACHE_CAP (power), N13 VDDARM_CAP_6 (power), N14 VDDARM_IN_6 (power), N15 GND_67 (power), N16 VDDSOC_IN_6 (power), N17 VDDPU_CAP_6 (power), N18 GND_68 (power), P7 NVCC_GPIO (power), P8 GND_74 (power), P9 VDDARM23_IN_5 (power), P10 GND_70 (power), P11 VDDARM23_CAP_7 (power), P12 GND_71 (power), P13 VDDARM_CAP_7 (power), P14 VDDARM_IN_7 (power), P15 GND_72 (power), P16 VDDSOC_IN_7 (power), P17 VDDPU_CAP_7 (power), P18 GND_73 (power), P19 NVCC_LCD (power), R8 GND_78 (power), R9 VDDARM23_IN_6 (power), R10 VDDSOC_CAP_1 (power), R11 VDDARM23_CAP_8 (power), R12 GND_75 (power), R13 VDDARM_CAP_8 (power), R14 VDDARM_IN_8 (power), R15 GND_76 (power), R16 VDDSOC_IN_8 (power), R17 GND_77 (power), R19 NVCC_ENET (power), T8 GND_84 (power), T9 VDDARM23_IN_7 (power), T10 VDDSOC_CAP_2 (power), T11 GND_79 (power), T12 GND_80 (power), T13 VDDSOC_CAP_3 (power), T14 VDDSOC_CAP_4 (power), T15 GND_81 (power), T16 VDDSOC_IN_9 (power), T17 GND_82 (power), T19 GND_83 (power), U8 GND_89 (power), U9 VDDARM23_IN_8 (power), U10 VDDSOC_CAP_5 (power), U11 GND_85 (power), U12 GND_86 (power), U13 VDDSOC_CAP_6 (power), U14 VDDSOC_CAP_7 (power), U15 GND_87 (power), U16 VDDSOC_IN_10 (power), U17 GND_88 (power), U19 GND_90 (power), V8 GND_91 (power), V19 GND_92 (power), W3 GND_93 (power), W7 GND_94 (power), W8 GND_95 (power), W9 GND_96 (power), W10 GND_97 (power), W11 GND_98 (power), W12 GND_99 (power), W13 GND_100 (power), W15 GND_101 (power), W16 GND_102 (power), W17 GND_103 (power), W18 GND_104 (power), W19 GND_105 (power), Y5 GND_106 (power), Y24 GND_107 (power)
part F pins: A12 SATA_TXP (out), A14 SATA_RXM (in), B12 SATA_TXM (out), B14 SATA_RXP (in), C14 SATA_REXT (in), G12 SATA_VPH (power), G13 SATA_VP (power)
part G pins: A6 USB_OTG_DP (io), B6 USB_OTG_DN (io), B8 ~{USB_OTG_CHD} (out), D10 USB_H1_VBUS (power), E9 USB_OTG_VBUS (power), E10 USB_H1_DP (io), F9 VDDUSB_CAP (power), F10 USB_H1_DN (io)
part H pins: AA1 LVDS1_TX1_P (out), AA2 LVDS1_TX1_N (out), AA3 LVDS1_TX3_N (out), AA4 LVDS1_TX3_P (out), AB1 LVDS1_TX2_N (out), AB2 LVDS1_TX2_P (out), U1 LVDS0_TX0_P (out), U2 LVDS0_TX0_N (out), U3 LVDS0_TX1_P (out), U4 LVDS0_TX1_N (out), V1 LVDS0_TX2_P (out), V2 LVDS0_TX2_N (out), V3 LVDS0_CLK_P (out), V4 LVDS0_CLK_N (out), V7 NVCC_LVDS2P5 (power), W1 LVDS0_TX3_P (out), W2 LVDS0_TX3_N (out), Y1 LVDS1_TX0_N (out), Y2 LVDS1_TX0_P (out), Y3 LVDS1_CLK_N (out), Y4 LVDS1_CLK_P (out)
part I pins: J1 HDMI_REF (in), J3 HDMI_D1M (out), J4 HDMI_D1P (out), J5 HDMI_CLKM (out), J6 HDMI_CLKP (out), K1 HDMI_HPD (in), K2 HDMI_DDCCEC (io), K3 HDMI_D2M (out), K4 HDMI_D2P (out), K5 HDMI_D0M (out), K6 HDMI_D0P (out), L7 HDMI_VP (power), M7 HDMI_VPH (power)
part J pins: AA5 DRAM_D3 (io), AA6 DRAM_D10 (io), AA8 DRAM_D17 (io), AA9 DRAM_D23 (io), AA11 DRAM_SDCKE1 (out), AA12 DRAM_A14 (out), AA14 DRAM_A2 (out), AA15 DRAM_A10 (out), AA17 DRAM_D32 (io), AA18 DRAM_D33 (io), AA20 DRAM_D45 (io), AA21 DRAM_D57 (io), AA23 DRAM_D61 (io), AA24 ~{DRAM_SDQS7} (io), AA25 DRAM_SDQS7 (io), AB4 DRAM_D6 (io), AB5 DRAM_D12 (io), AB6 DRAM_D14 (io), AB7 DRAM_D16 (io), AB8 DRAM_DQM2 (out), AB9 DRAM_D18 (io), AB10 ~{DRAM_SDQS3} (io), AB11 DRAM_D27 (io), AB12 DRAM_SDBA2 (out), AB13 DRAM_A8 (out), AB14 DRAM_A1 (out), AB15 DRAM_RAS (out), AB16 DRAM_SDWE (out), AB17 DRAM_SDODT1 (out), AB18 DRAM_DQM4 (out), AB19 DRAM_D38 (io), AB20 DRAM_D41 (io), AB21 DRAM_D42 (io), AB22 DRAM_D52 (io), AB23 DRAM_D60 (io), AB25 DRAM_D56 (io), AC1 DRAM_D4 (io), AC2 DRAM_VREF (power), AC3 DRAM_DQM0 (out), AC4 DRAM_D2 (io), AC5 DRAM_D13 (io), AC6 DRAM_DQM1 (out), AC7 DRAM_D15 (io), AC8 DRAM_D22 (io), AC9 DRAM_D28 (io), AC10 DRAM_SDQS3 (io), AC11 DRAM_D31 (io), AC12 DRAM_A11 (out), AC13 DRAM_A6 (out), AC14 DRAM_A0 (out), AC15 DRAM_SDBA0 (out), AC16 DRAM_SDODT0 (out), AC17 DRAM_A13 (out), AC18 DRAM_D34 (io), AC19 DRAM_D39 (io), AC20 DRAM_DQM5 (out), AC21 DRAM_D47 (io), AC22 DRAM_D48 (io), AC23 DRAM_D53 (io), AC24 DRAM_D51 (io), AC25 DRAM_D55 (io), AD1 DRAM_D5 (io), AD2 DRAM_D0 (io), AD3 ~{DRAM_SDQS0} (io), AD5 DRAM_D8 (io), AD6 DRAM_SDQS1 (io), AD8 DRAM_SDQS2 (io), AD9 DRAM_D29 (io), AD11 DRAM_D30 (io), AD12 DRAM_A12 (out), AD14 DRAM_SDCLK_1 (out), AD15 DRAM_SDCLK_0 (out), AD17 DRAM_CS1 (out), AD18 DRAM_SDQS4 (io), AD20 DRAM_SDQS5 (io), AD21 DRAM_D43 (io), AD23 DRAM_SDQS6 (io), AD24 DRAM_DQM6 (out), AD25 DRAM_D54 (io), AE2 DRAM_D1 (io), AE3 DRAM_SDQS0 (io), AE4 DRAM_D7 (io), AE5 DRAM_D9 (io), AE6 ~{DRAM_SDQS1} (io), AE7 DRAM_D11 (io), AE8 ~{DRAM_SDQS2} (io), AE9 DRAM_D24 (io), AE10 DRAM_DQM3 (out), AE11 DRAM_D26 (io), AE12 DRAM_A9 (out), AE13 DRAM_A5 (out), AE14 ~{DRAM_SDCLK_1} (out), AE15 ~{DRAM_SDCLK_0} (out), AE16 DRAM_CAS (out), AE17 ZQPAD (in), AE18 ~{DRAM_SDQS4} (io), AE19 DRAM_D35 (io), AE20 ~{DRAM_SDQS5} (io), AE21 DRAM_D46 (io), AE22 DRAM_D49 (io), AE23 ~{DRAM_SDQS6} (io), AE24 DRAM_D50 (io), R18 NVCC_DRAM_1 (power), T18 NVCC_DRAM_2 (power), U18 NVCC_DRAM_3 (power), V9 NVCC_DRAM_13 (power), V10 NVCC_DRAM_4 (power), V11 NVCC_DRAM_5 (power), V12 NVCC_DRAM_6 (power), V13 NVCC_DRAM_7 (power), V14 NVCC_DRAM_8 (power), V15 NVCC_DRAM_9 (power), V16 NVCC_DRAM_10 (power), V17 NVCC_DRAM_11 (power), V18 NVCC_DRAM_12 (power), W14 DRAM_A4 (out), W25 DRAM_D63 (io), Y6 DRAM_RESET (out), Y7 DRAM_D20 (io), Y8 DRAM_D21 (io), Y9 DRAM_D19 (io), Y10 DRAM_D25 (io), Y11 DRAM_SDCKE0 (out), Y12 DRAM_A15 (out), Y13 DRAM_A7 (out), Y14 DRAM_A3 (out), Y15 DRAM_SDBA1 (out), Y16 DRAM_CS0 (out), Y17 DRAM_D36 (io), Y18 DRAM_D37 (io), Y19 DRAM_D40 (io), Y20 DRAM_D44 (io), Y21 DRAM_DQM7 (out), Y22 DRAM_D59 (io), Y23 DRAM_D62 (io), Y25 DRAM_D58 (io)
part K pins: A24 RGMII_TD3 (out), B23 RGMII_RD1 (in), B24 RGMII_RD2 (in), B25 RGMII_RXC (in), C22 RGMII_TD0 (out), C23 RGMII_TX_CTL (out), C24 RGMII_RD0 (in), D21 RGMII_TXC (out), D22 RGMII_RX_CTL (in), D23 RGMII_RD3 (in), E21 RGMII_TD2 (out), F20 RGMII_TD1 (out)
part L pins: A2 PCIE_REXT (in), A3 PCIE_TXM (out), B1 PCIE_RXM (in), B2 PCIE_RXP (in), B3 PCIE_TXP (out), G7 PCIE_VPH (power), G8 PCIE_VPTX (power), H7 PCIE_VP (power)
part A text: i.MX6Q - EIM
part B text: i.MX6Q
part C text: i.MX6Q - CONTROL
part D text: i.MX6Q - DISP; CSI
part E text: i.MX6Q - POWER
part F text: i.MX6Q - SATA
part G text: i.MX6Q - USB
part H text: i.MX6Q - LVDS
part I text: i.MX6Q - HDMI
part J text: i.MX6Q - DDR
part K text: i.MX6Q - RGMII
part L text: i.MX6Q - PCIe

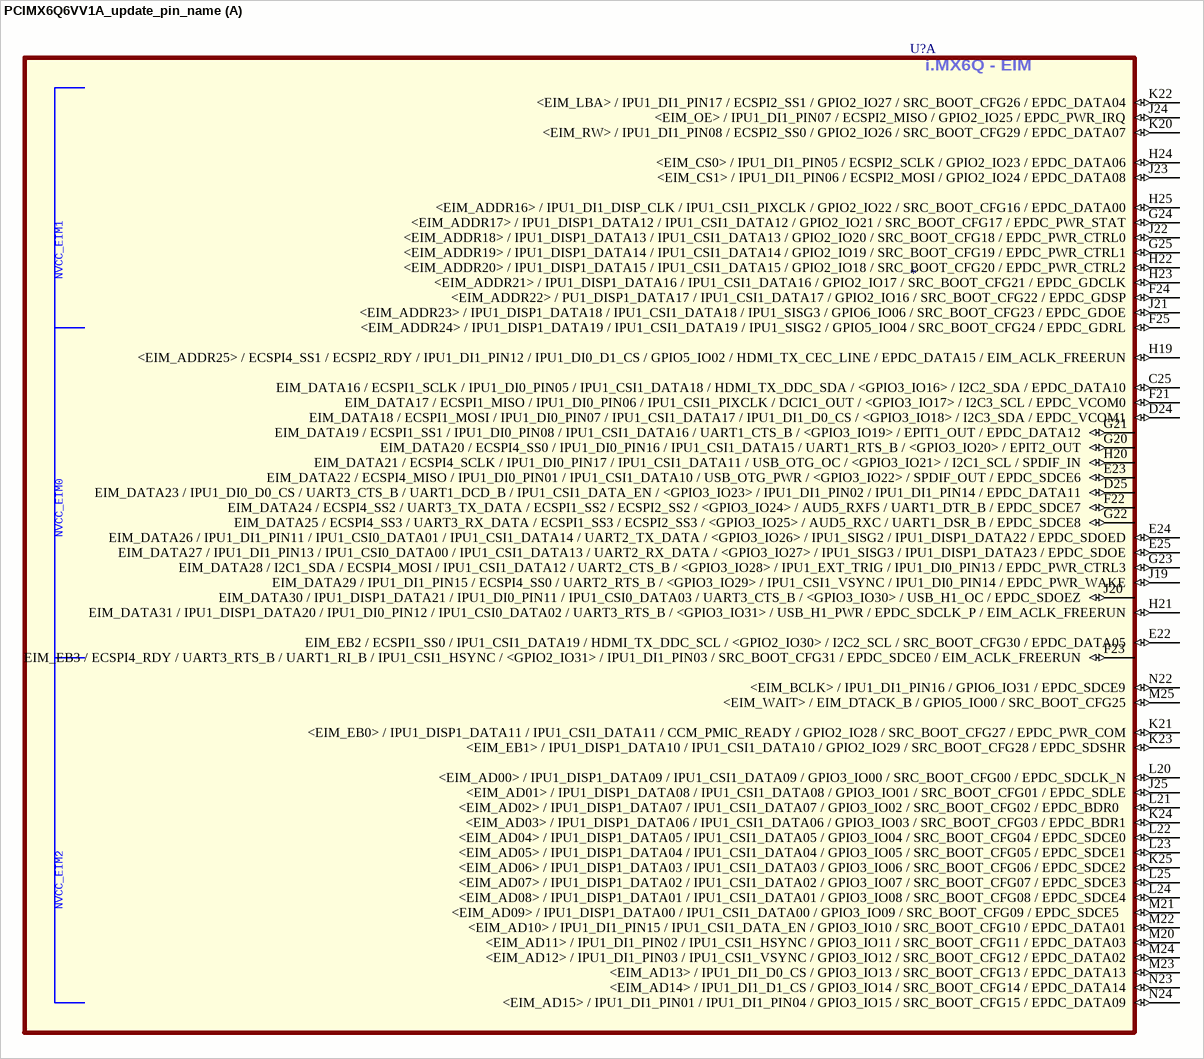
[diagram p7: symbol PCIMX6Q6VV1A_update_pin_name]

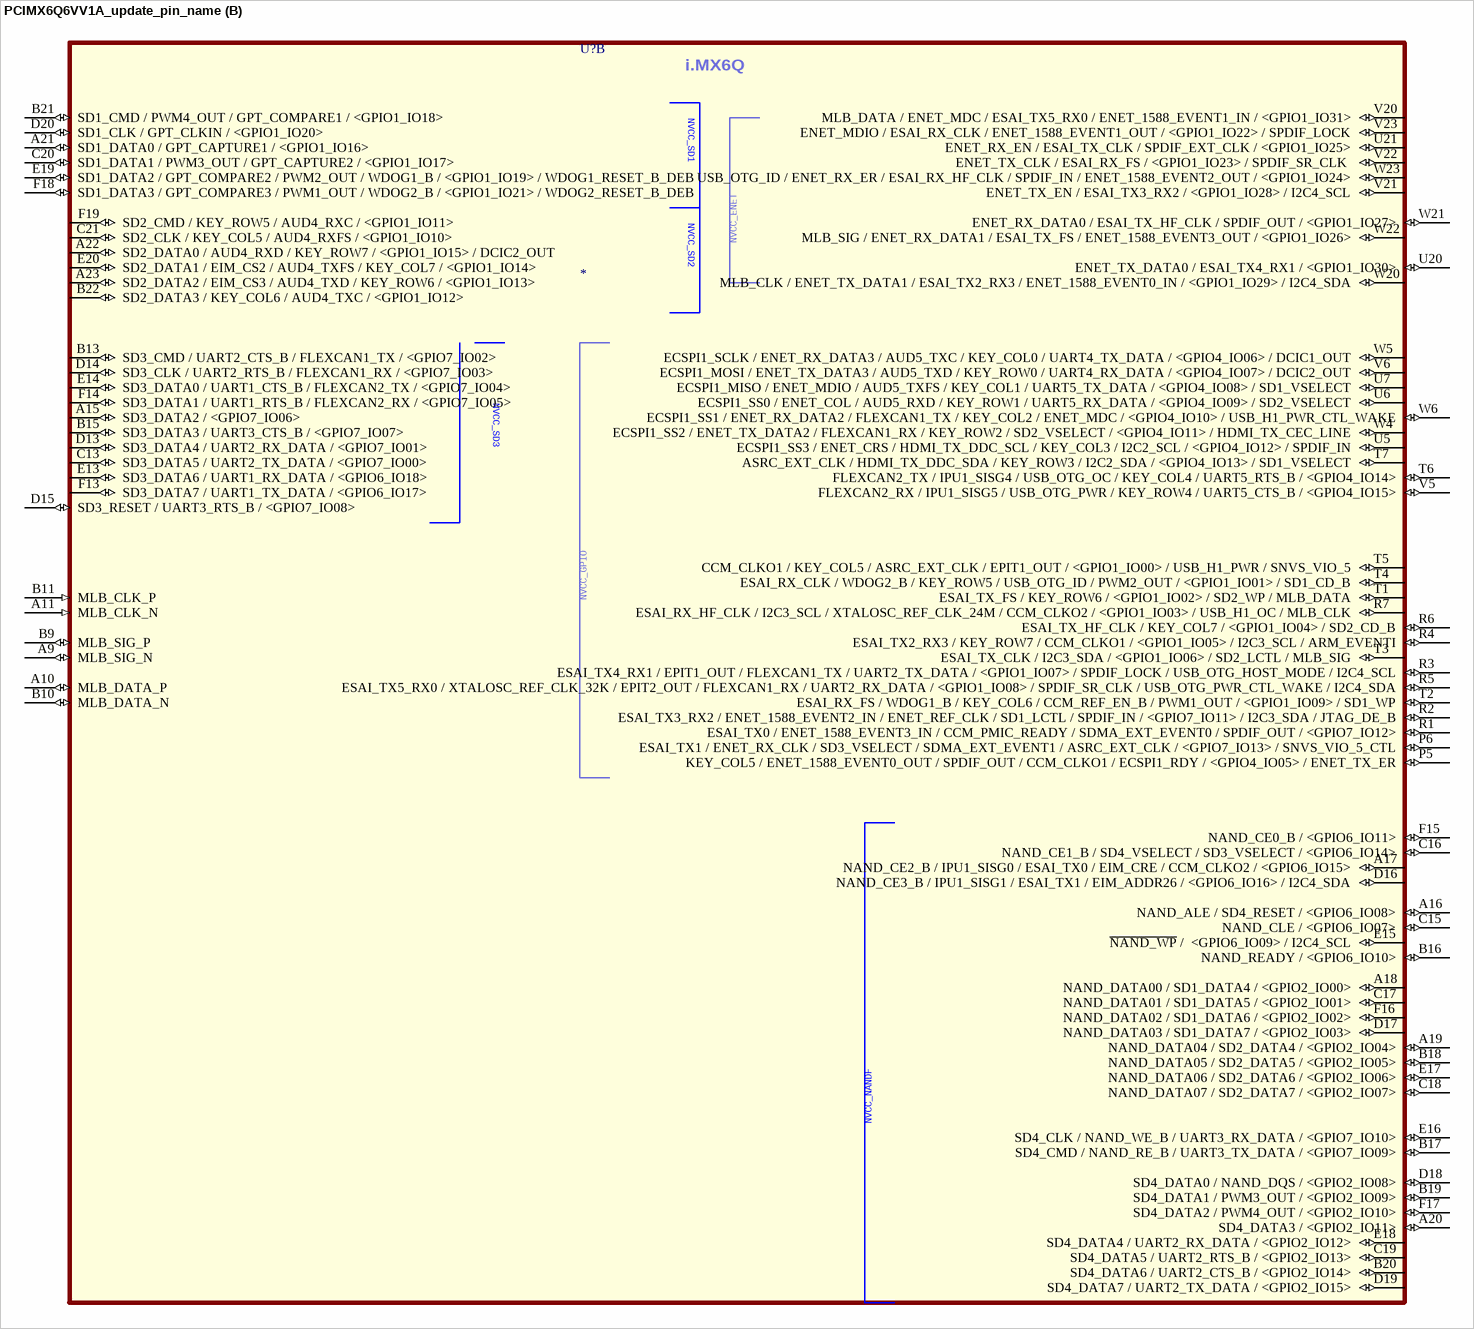
[diagram p8: symbol PCIMX6Q6VV1A_update_pin_name]

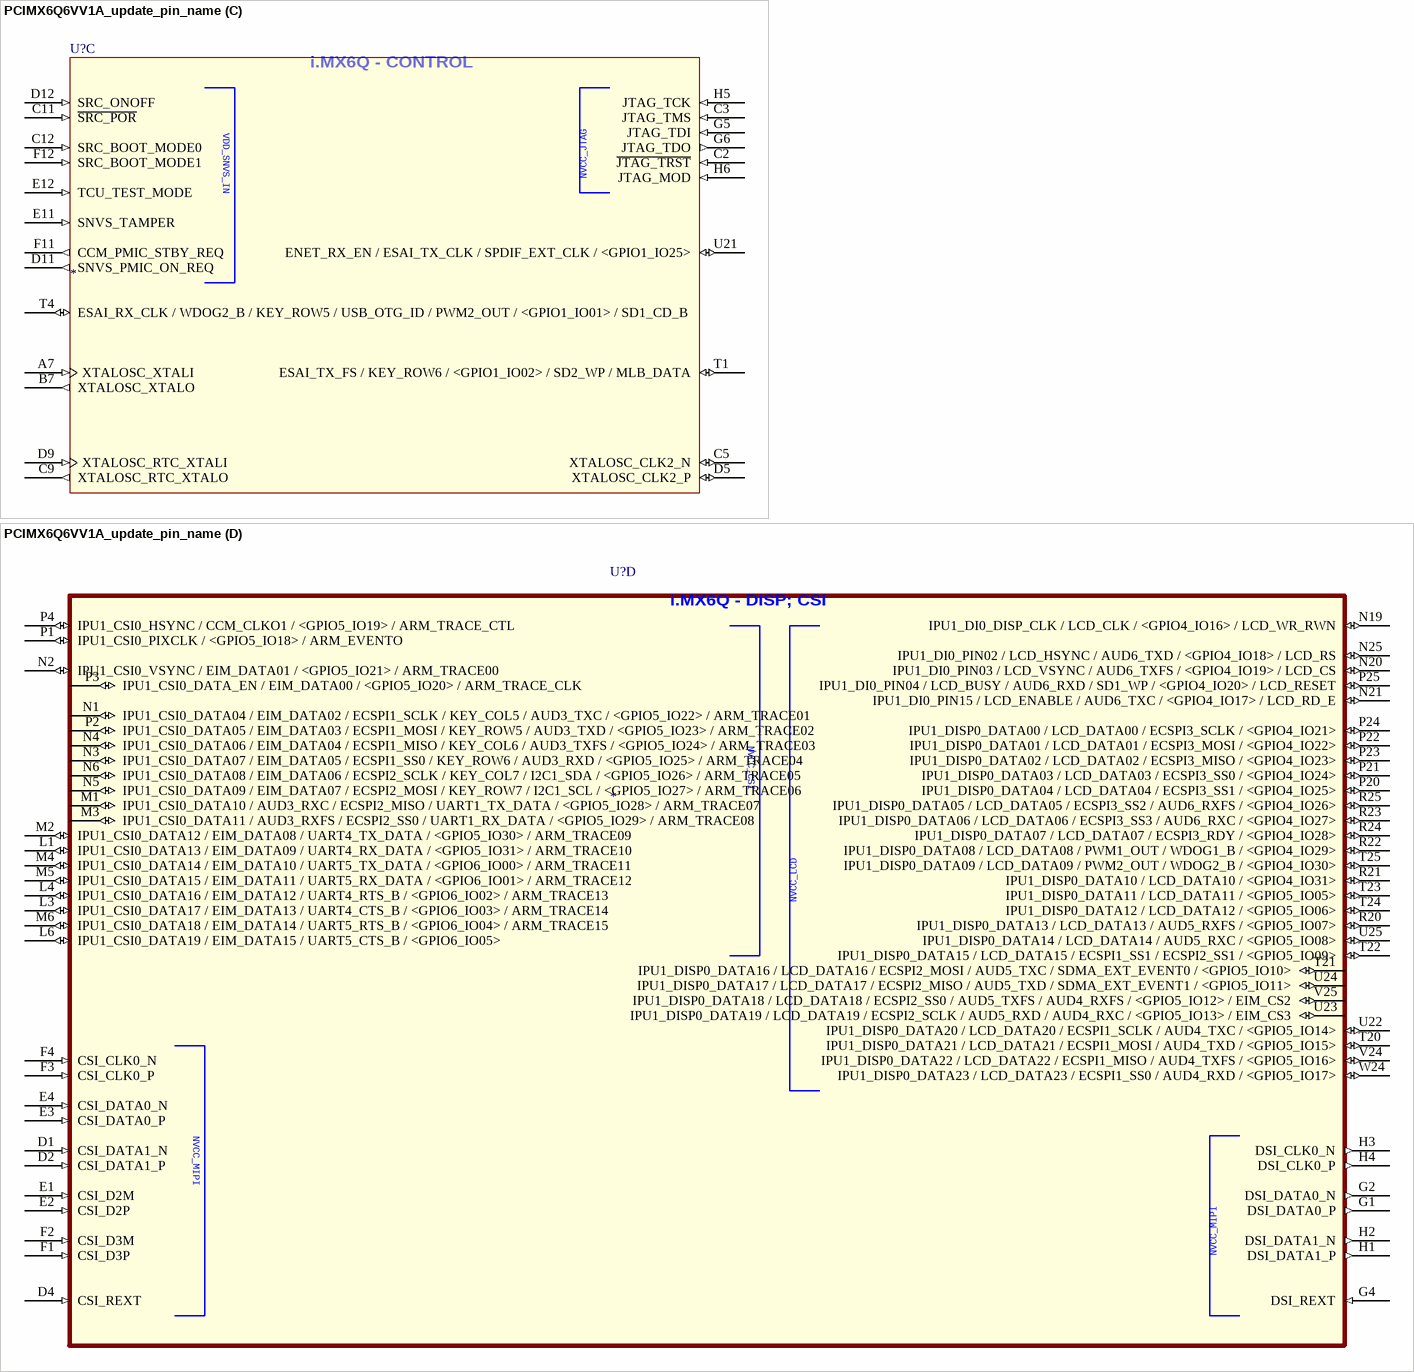
[diagram p9: symbol PCIMX6Q6VV1A_update_pin_name]

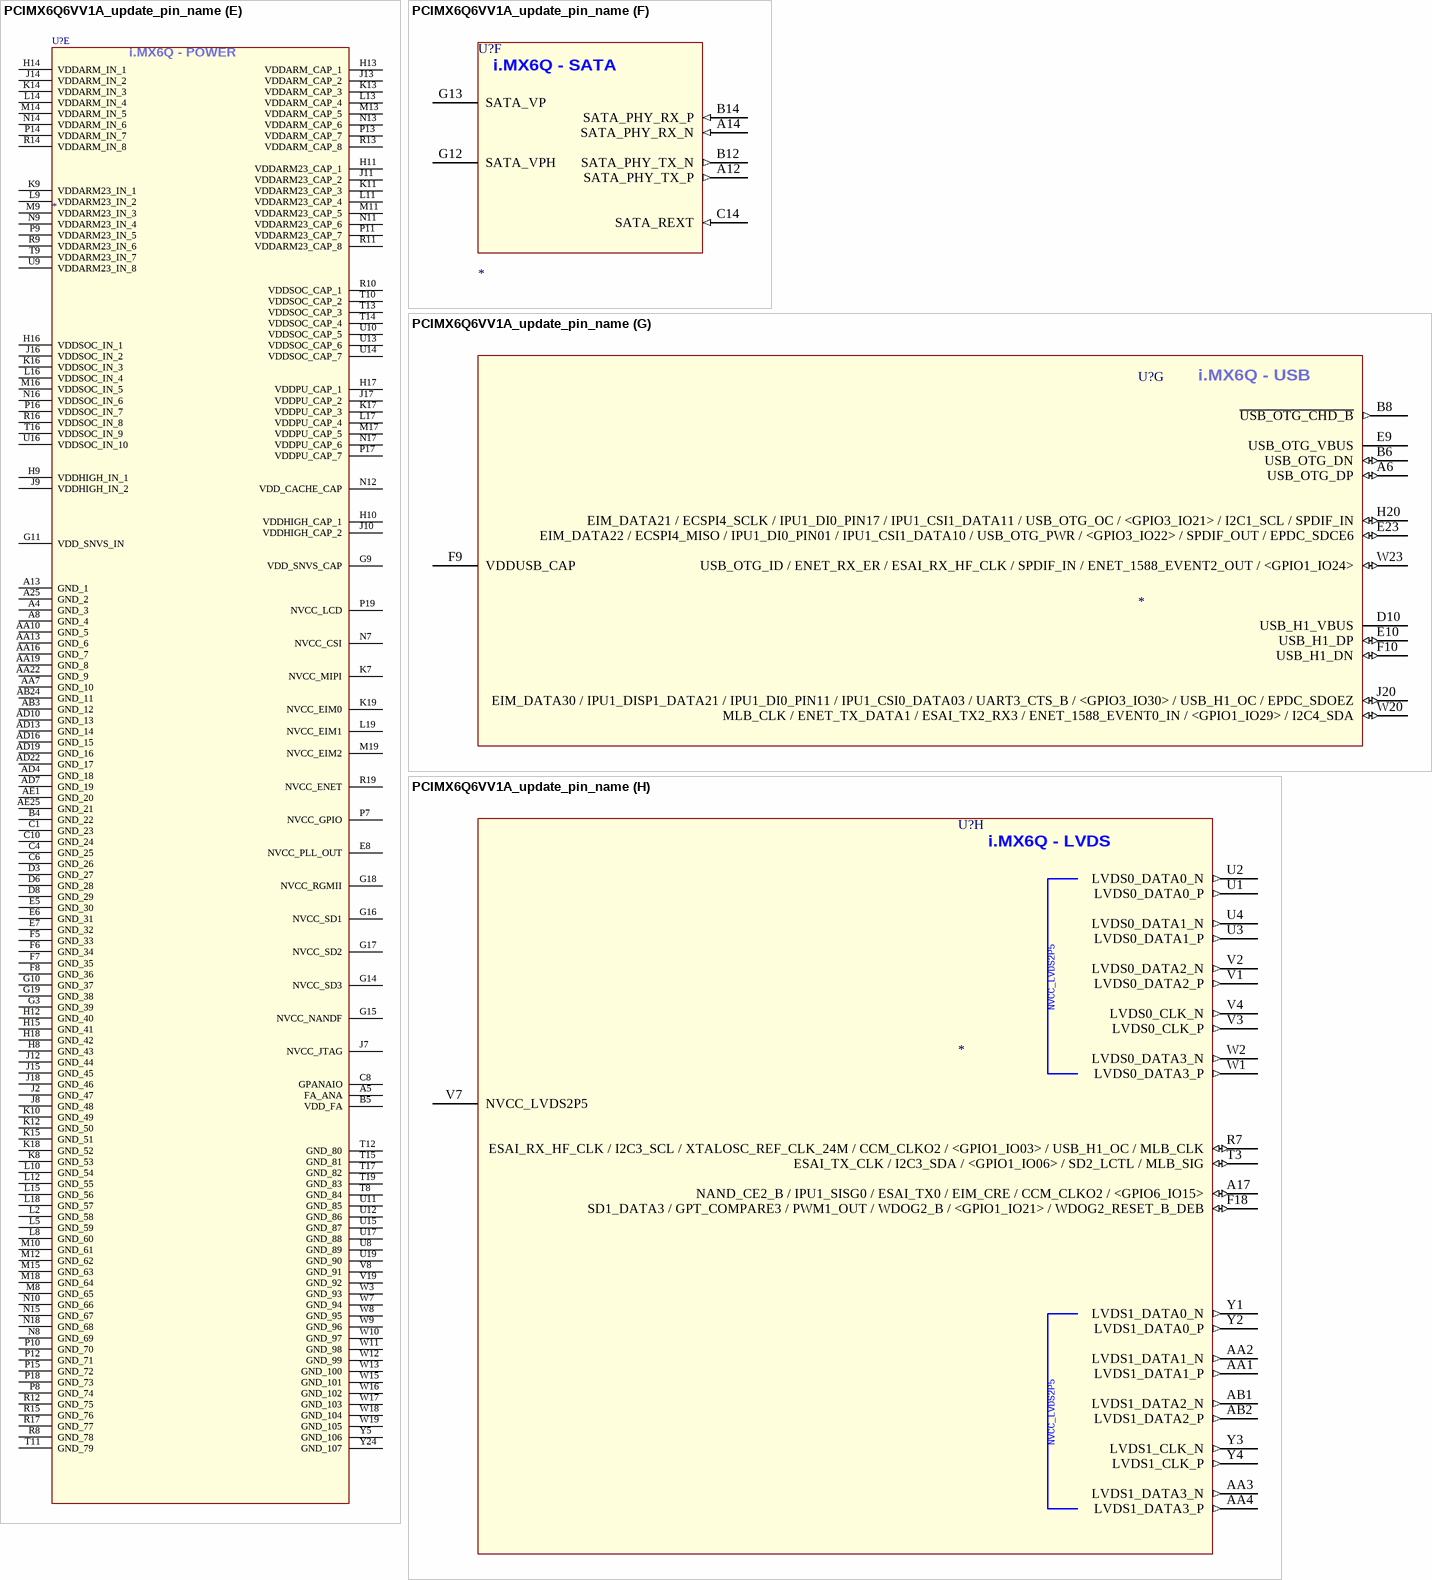
[diagram p10: symbol PCIMX6Q6VV1A_update_pin_name]

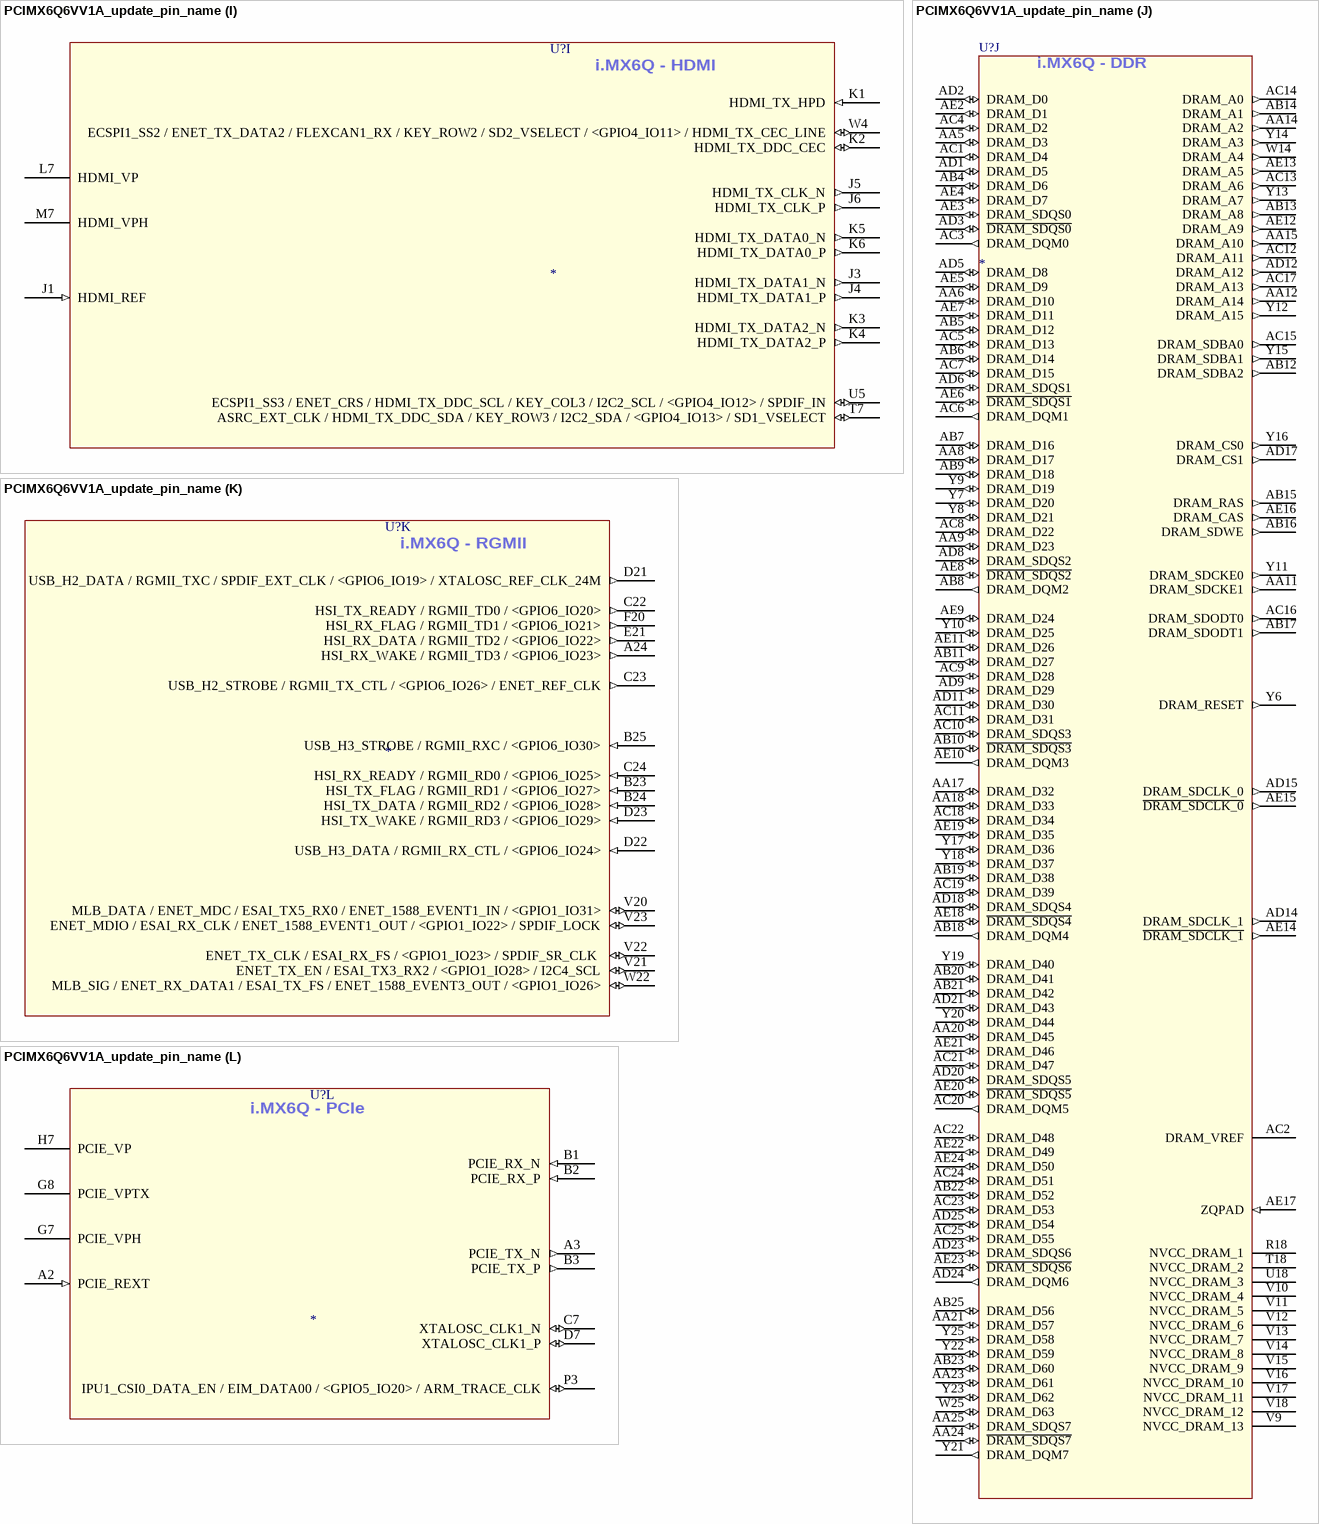
[diagram p11: symbol PCIMX6Q6VV1A_update_pin_name]

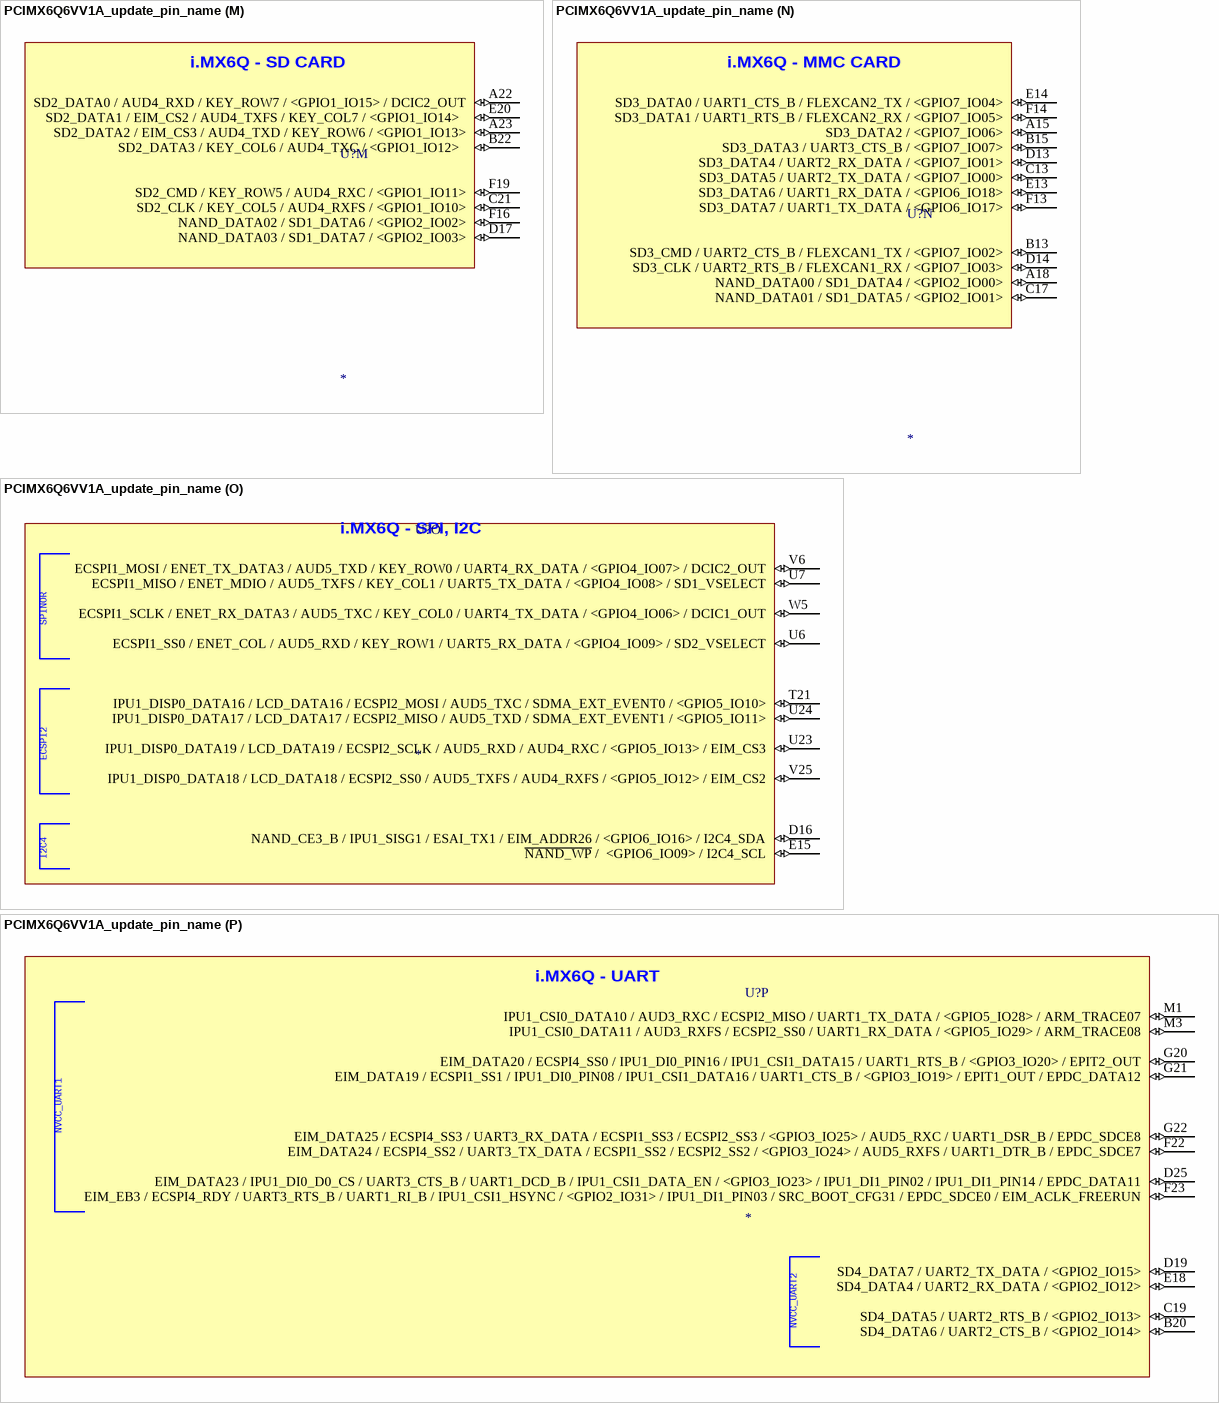
[diagram p12: symbol PCIMX6Q6VV1A_update_pin_name]

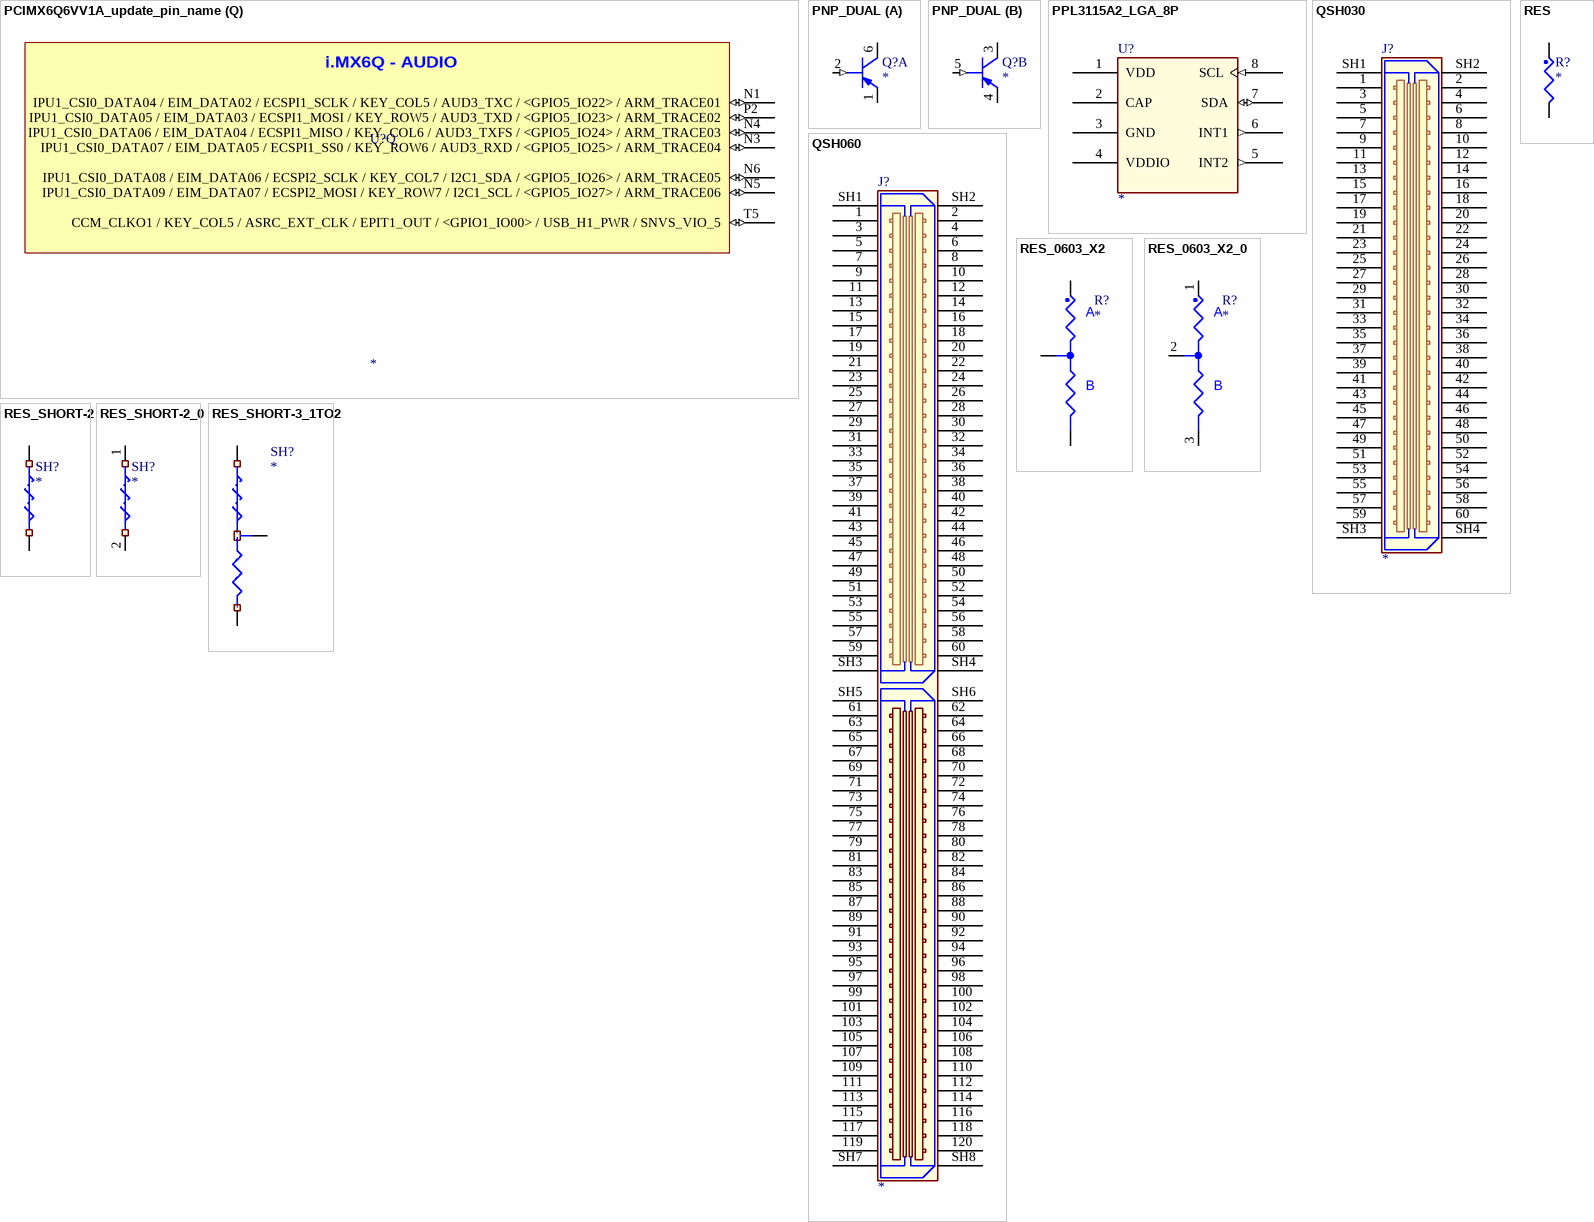
[diagram p13: symbols PCIMX6Q6VV1A_update_pin_name to RES_SHORT-3_1TO2]